# Altium schematic symbol library connector.SchLib: 89 symbols
Pins are listed as number, name and electrical type; pins without a type are passive.

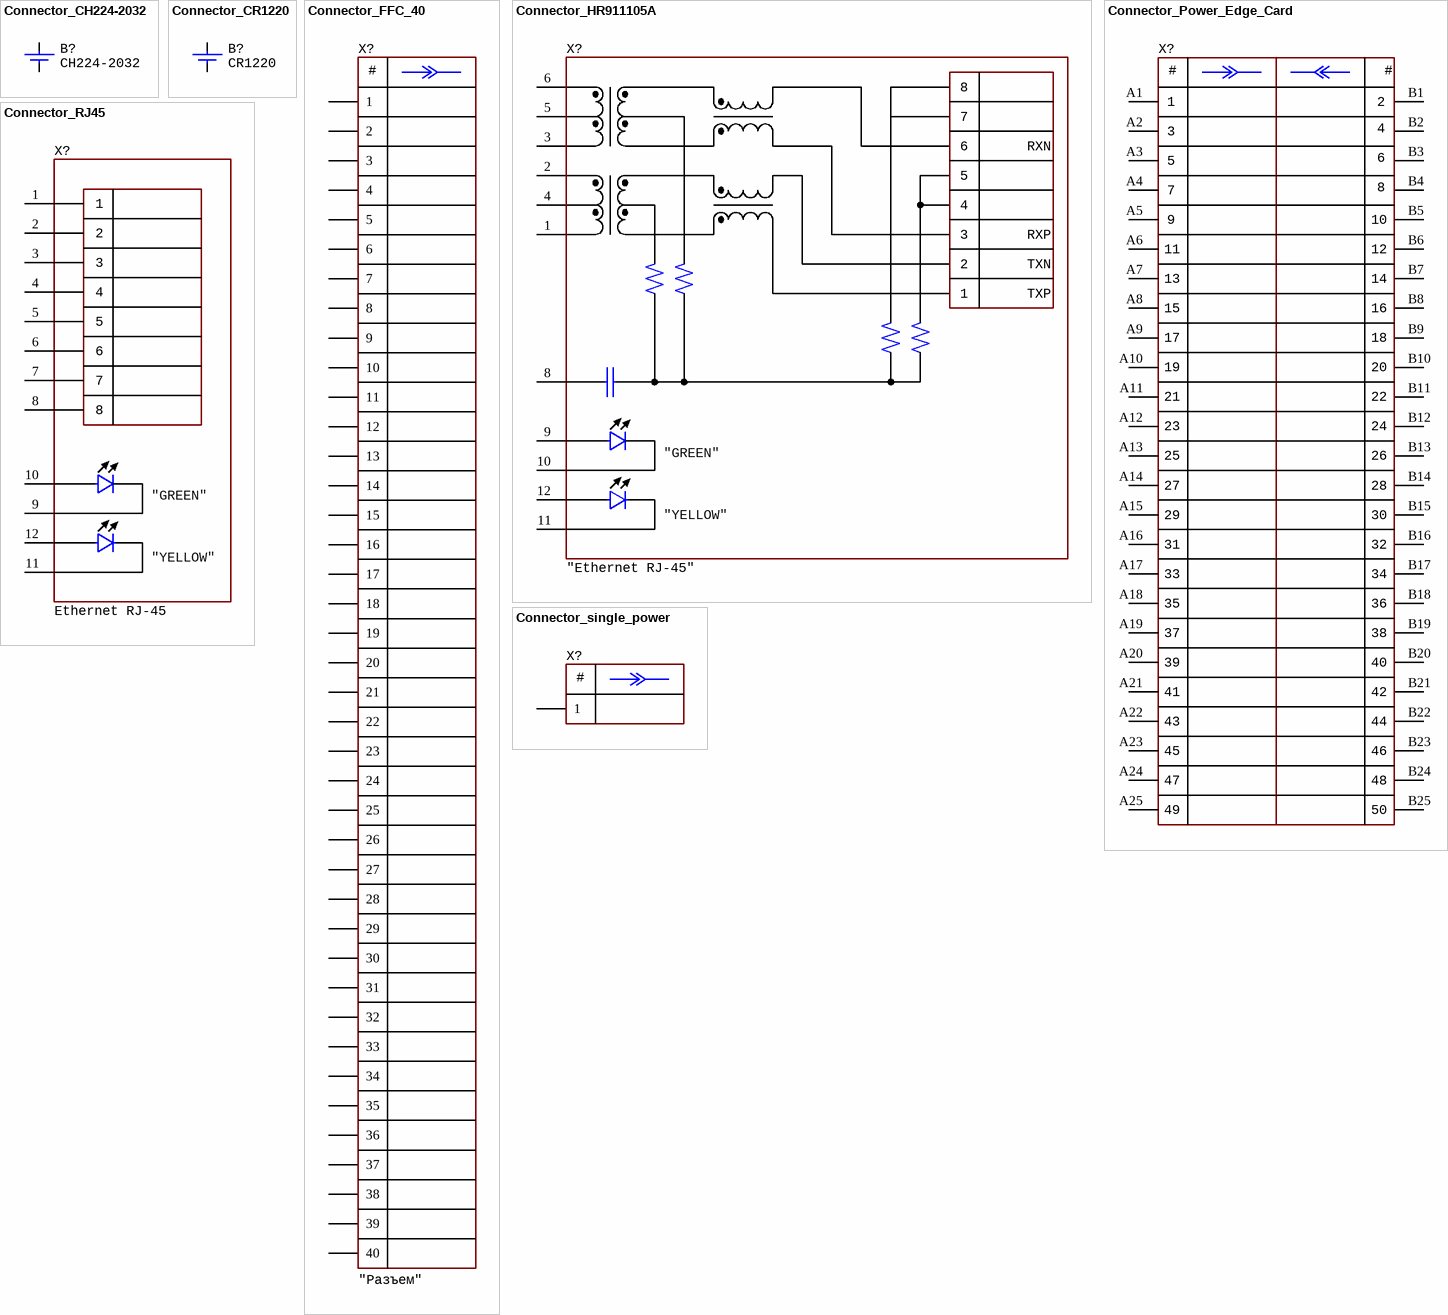
[diagram p0: symbols Connector_CH224-2032 to Connector_single_power]

## Connector_CH224-2032
designator B?  PartNumber: CH224-2032
Manufacturer: KLS; ValueManufacturerPartNumber: Single battery CR2032; CommentText: CR2032; HelpURL: https://www.chipdip.ru/product/bh-642; TypeConnector: Single battery CR2032
footprint BAT: CH224-2032 (пїЅпїЅпїЅпїЅпїЅпїЅпїЅпїЅпїЅпїЅ пїЅпїЅпїЅпїЅпїЅ пїЅпїЅпїЅ пїЅпїЅпїЅпїЅпїЅпїЅпїЅпїЅ 2032)
pins: 1 + (power), 2 - (power)

## Connector_CR1220
designator B?  CommentText: CR1220
Manufacturer: Q&J; ValueManufacturerPartNumber: Single battery CR1220; PartNumber: CR1220-2; HelpURL: https://lcsc.com/product-detail/Battery-Holders-Clips-Contacts_CR1220-2-Battery-horizontal-base_C70381.html; TypeConnector: Single battery CR1220
footprint BAT: CR1220
pins: 1 + (power), 2 - (power)

## Connector_FFC_40
designator X?  CommentText: "Разъем"
Manufacturer: JUSHUO; ValueManufacturerPartNumber: Connector, 40pin, 0.5mm, FFC/FPC, Top contact; PartNumber: AFC07-S40ECC-00; TypeConnector: Connector; VoltageMax: FFC/FPC; Pitch: 0.5mm; CurrentMax: Top contact; Multichannel: 40pin; HelpURL: https://lcsc.com/product-detail/FFC-FPC-Connectors_JUSHUO-AFC07-S40ECC-00_C11097.html
footprint CON: FFC/FPC-40-0.5
pins: 1, 2, 3, 4, 5, 6, 7, 8, 9, 10, 11, 12, 13, 14, 15, 16, 17, 18, 19, 20, 21, 22, 23, 24, 25, 26, 27, 28, 29, 30, 31, 32, 33, 34, 35, 36, 37, 38, 39, 40
text: #

## Connector_HR911105A
designator X?  CommentText: "Ethernet RJ-45"
Manufacturer: Hanrun; ValueManufacturerPartNumber: Etherner RJ-45 connector; PartNumber: HR911105A; HelpURL: https://ru.aliexpress.com/item/32244614847.html?spm=a2g0v.search0104.3.9.304d24e7qb4B5g&ws_ab_test=searchweb0_0%2Csearchweb201602_10_10065_10068_319_317_10696_453_10084_454_10083_10618_10307_10301_537_536_10059_10884_10887_321_322_10915_10103_10914_10911_10910%2Csearchweb201603_52%2CppcSwitch_0&algo_expid=ad591376-da58-472d-83c6-21bacd43ef2b-1&algo_pvid=ad591376-da58-472d-83c6-21bacd43ef2b&transAbTest=ae803_5; TypeConnector: Etherner RJ-45 connector
footprint CON: HR911105A
pins: 1 TD+, 2 TD-, 3 RD+, 4 CT, 5 CT, 6 RD-, 8 GND, 9 D2, 10 D1, 11 D3, 12 D4
text: 7; RXN; RXP; TXN; TXP; "GREEN"; "YELLOW"

## Connector_Power_Edge_Card
designator X?
Manufacturer: Amphenol; ValueManufacturerPartNumber: Connector, 50pin, 2.54mm, 1000VAC, 7A/pin; PartNumber: 10035388-102LF; TypeConnector: Connector; VoltageMax: 1000VAC; Pitch: 2.54mm; CurrentMax: 7A/pin; Multichannel: 50pin; CommentText: Card Edge; HelpURL: https://ru.mouser.com/ProductDetail/Amphenol-FCI/10035388-102LF?qs=%2Fha2pyFadui9x9oTzk6aoOrWfush%2FCTWI8EfMisuUnAIufrbBy3wfA%3D%3D
footprint CON: 10035388-102LF (Amphenol)
pins: A1, A2, A3, A4, A5, A6, A7, A8, A9, A10, A11, A12, A13, A14, A15, A16, A17, A18, A19, A20, A21, A22, A23, A24, A25, B1, B2, B3, B4, B5, B6, B7, B8, B9, B10, B11, B12, B13, B14, B15, B16, B17, B18, B19, B20, B21, B22, B23, B24, B25
text: #; 1; 2; 3; 4; 5; 6; 7; 8; 9; 10; 11; 12; 13; 14; 15; 16; 17; 18; 19; 20; 21; 22; 23; 24; 25; 26; 27; 28; 29; 30; 31; 32; 33; 34; 35; 36; 37; 38; 39; 40; 41; 42; 43; 44; 45; 46; 47; 48; 49; 50

## Connector_RJ45
designator X?  CommentText: Ethernet RJ-45
Manufacturer: Wurth; ValueManufacturerPartNumber: Etherner RJ-45 connector; PartNumber: 615008137421; AnalogComponent: DS1128-09-S8B8S (Connfly); HelpURL: https://www.digikey.com/product-detail/en/w-rth-elektronik/615008137421/732-2112-ND/2060608; TypeConnector: Etherner RJ-45 connector
footprint CON: RJ-45 (615008137421 / DS1128-09-S8B8S)
pins: 1 D2, 2 D2, 3 D2, 4 D2, 5 D2, 6 D2, 7 D2, 8 D2, 9 D2, 10 D1, 11 D3, 12 D4
text: "GREEN"; "YELLOW"

## Connector_single_power
designator X?
ValueManufacturerPartNumber: Power connector, *, *; TypeConnector: Power connector; CommentText: "Разъем"; Manufacturer: *; HelpURL: *; PartNumber: *; VoltageMax: *; CurrentMax: *
footprint CON: 7781
footprint CON: 8191
footprint CON: 7461057
footprint CON: 7461097
footprint CON: 7466005R
footprint CON: TH 1mm
footprint CON: TH 2mm
footprint CON: TH 3.5mm
footprint CON: Tyco 62650-1
pins: 1
text: #

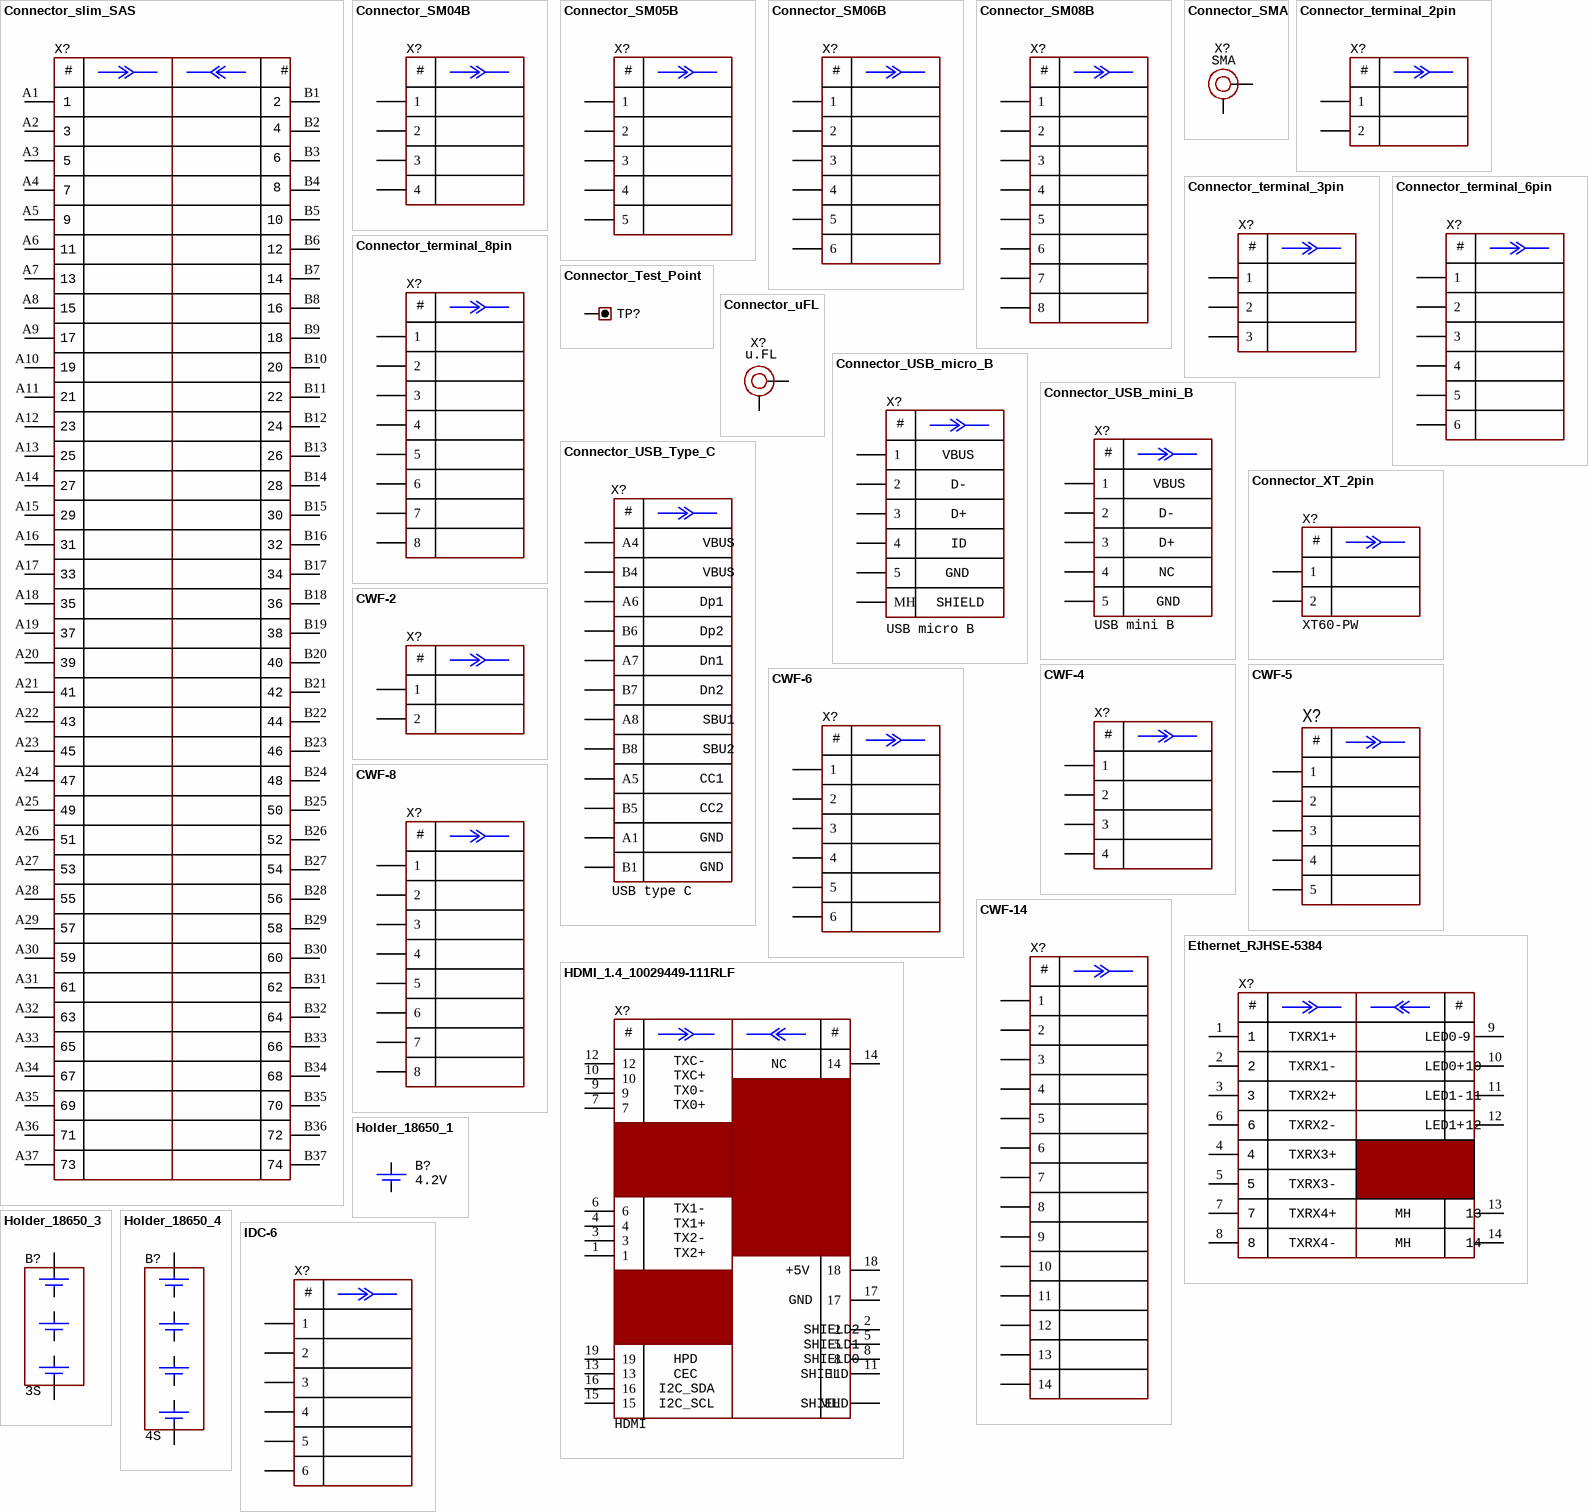
[diagram p1: symbols Connector_slim_SAS to IDC-6]

## Connector_slim_SAS
designator X?
Manufacturer: TE connectivity; ValueManufacturerPartNumber: Connector, 74pin, 0.6mm, x8 line, SFF-8654; PartNumber: 2356320-1; TypeConnector: Connector; VoltageMax: x8 line; Pitch: 0.6mm; Multichannel: 74pin; CommentText: SlimSAS; HelpURL: https://www.te.com/usa-en/product-2356320-1.html?q=2356320&source=header; CurrentMax: SFF-8654
footprint CON: 2356320-1 (slimSAS) (TE manufacture)
footprint CON: 2356318-1 (SlimSAS)
pins: A1, A2, A3, A4, A5, A6, A7, A8, A9, A10, A11, A12, A13, A14, A15, A16, A17, A18, A19, A20, A21, A22, A23, A24, A25, A26, A27, A28, A29, A30, A31, A32, A33, A34, A35, A36, A37, B1, B2, B3, B4, B5, B6, B7, B8, B9, B10, B11, B12, B13, B14, B15, B16, B17, B18, B19, B20, B21, B22, B23, B24, B25, B26, B27, B28, B29, B30, B31, B32, B33, B34, B35, B36, B37
text: #; 1; 2; 3; 4; 5; 6; 7; 8; 9; 10; 11; 12; 13; 14; 15; 16; 17; 18; 19; 20; 21; 22; 23; 24; 25; 26; 27; 28; 29; 30; 31; 32; 33; 34; 35; 36; 37; 38; 39; 40; 41; 42; 43; 44; 45; 46; 47; 48; 49; 50; 51; 52; 53; 54; 55; 56; 57; 58; 59; 60; 61; 62; 63; 64; 65; 66; 67; 68; 69; 70; 71; 72; 73; 74

## Connector_SM04B
designator X?
Manufacturer: JST; ValueManufacturerPartNumber: Connector, 4pin, 1.25mm, 50VDC, 1A; PartNumber: SM04B-GHS; TypeConnector: Connector; VoltageMax: 50VDC; Pitch: 1.25mm; CurrentMax: 1A; Multichannel: 4pin; CommentText: "Разъем"; HelpURL: https://www.digikey.com/product-detail/en/jst-sales-america-inc/SM04B-GHS-TB-LF-SN/455-1566-1-ND/807834
footprint CON: SM04B-GHS
pins: 1, 2, 3, 4
text: #

## Connector_SM05B
designator X?
Manufacturer: JST; ValueManufacturerPartNumber: Connector, 5pin, 1.25mm, 50VDC, 1A; PartNumber: SM05B-GHS; TypeConnector: Connector; VoltageMax: 50VDC; Pitch: 1.25mm; CurrentMax: 1A; Multichannel: 5pin; CommentText: "Разъем"; HelpURL: https://www.digikey.com/product-detail/en/jst-sales-america-inc/SM05B-GHS-TB-LF-SN/455-1567-1-ND/807835
footprint CON: SM05B-GHS
pins: 1, 2, 3, 4, 5
text: #

## Connector_SM06B
designator X?
Manufacturer: JST; ValueManufacturerPartNumber: Connector, 6pin, 1.25mm, 50VDC, 1A; PartNumber: SM06B-GHS; TypeConnector: Connector; VoltageMax: 50VDC; Pitch: 1.25mm; CurrentMax: 1A; Multichannel: 6pin; CommentText: "Разъем"; HelpURL: https://www.digikey.com/product-detail/en/jst-sales-america-inc/SM06B-GHS-TB-LF-SN/455-1568-1-ND/807836
footprint CON: SM06B-GHS
pins: 1, 2, 3, 4, 5, 6
text: #

## Connector_SM08B
designator X?
Manufacturer: JST; ValueManufacturerPartNumber: Connector, 6pin, 1.25mm, 50VDC, 1A; PartNumber: SM08B-GHS; TypeConnector: Connector; VoltageMax: 50VDC; Pitch: 1.25mm; CurrentMax: 1A; Multichannel: 6pin; CommentText: "Разъем"; HelpURL: https://www.digikey.com/en/products/detail/jst-sales-america-inc/SM08B-GHS-TB-LF-SN/807792
footprint CON: SM08B-GHS
pins: 1, 2, 3, 4, 5, 6, 7, 8
text: #

## Connector_SMA
designator X?  CommentText: SMA
Manufacturer: TE Connectivity; ValueManufacturerPartNumber: Connector SMA, 50 Ohm, 3GHz; PartNumber: 5-1814832-1; TypeConnector: Connector SMA; Frequency: 3GHz; Impedance: 50 Ohm; HelpURL: https://www.digikey.com/product-detail/en/te-connectivity-amp-connectors/5-1814832-1/A97594-ND/1755982
footprint CON: SMA
pins: 1, 2

## Connector_terminal_2pin
designator X?
Manufacturer: Degson; ValueManufacturerPartNumber: Terminal connector, 2pin, 3.5mm, 300VAC, 10A; PartNumber: DG350-3.5-02P-14; TypeConnector: Terminal connector; VoltageMax: 300VAC; Pitch: 3.5mm; CurrentMax: 10A; Multichannel: 2pin; CommentText: "Разъем"; HelpURL: https://www.chipdip.ru/product/dg350-3.5-02p-12
footprint CON: DG350-3.5-02P
footprint CON: DG950-9.5-02P
footprint CON: KLS2 (or 691311500002)
footprint CON: 15EDGRC-3.5-02 (or 691322110002) (Horizontal PCB Header, pitch 3.5mm, 02p)
footprint CON: 15EDGVC-3.5-02 (or 691321100002) (Vertical PCB Header, pitch 3.5mm, 02p)
footprint CON: 691313710002
footprint CON: 691322310002
pins: 1, 2
text: #

## Connector_terminal_3pin
designator X?
Manufacturer: Degson; ValueManufacturerPartNumber: Terminal connector, 3pin, 3.5mm, 300VAC, 10A; PartNumber: DG350-3.5-03P-14; TypeConnector: Terminal connector; VoltageMax: 300VAC; Pitch: 3.5mm; CurrentMax: 10A; Multichannel: 3pin; CommentText: "Разъем"; HelpURL: https://www.chipdip.ru/product/dg350-3.5-03p-12
footprint CON: DG350-3.5-03P
footprint CON: 15EDGRC-3.5-03 (or 691322110003) (Horizontal PCB Header, pitch 3.5mm, 03p)
footprint CON: 15EDGVC-3.5-03 (or 691321100003) (Vertical PCB Header, pitch 3.5mm, 03p)
pins: 1, 2, 3
text: #

## Connector_terminal_6pin
designator X?
Manufacturer: Degson; ValueManufacturerPartNumber: Terminal connector, 6pin, 3.5mm, 300VAC, 10A; PartNumber: DG350-3.5-06P-14; TypeConnector: Terminal connector; VoltageMax: 300VAC; Pitch: 3.5mm; CurrentMax: 10A; Multichannel: 6pin; CommentText: "Разъем"; HelpURL: https://www.compel.ru/infosheet/DEGSON/DG350-3.5-06P-14-00AH
footprint CON: DG350-3.5-06P
footprint CON: 15EDGRC-3.5-06 (or 691322110006) (Horizontal PCB Header, pitch 3.5mm, 06p)
footprint CON: 15EDGVC-3.5-06 (or 691321100006) (Vertical PCB Header, pitch 3.5mm, 06p)
pins: 1, 2, 3, 4, 5, 6
text: #

## Connector_terminal_8pin
designator X?
Manufacturer: Degson; ValueManufacturerPartNumber: Terminal connector, 6pin, 3.5mm, 300VAC, 10A; PartNumber: DG350-3.5-08P-14; TypeConnector: Terminal connector; VoltageMax: 300VAC; Pitch: 3.5mm; CurrentMax: 10A; Multichannel: 6pin; CommentText: "Разъем"; HelpURL: https://www.compel.ru/infosheet/DEGSON/DG350-3.5-08P-14-00AH
footprint CON: 15EDGRC-3.5-08 (or 691322110008) (Horizontal PCB Header, pitch 3.5mm, 08p)
footprint CON: 15EDGVC-3.5-08 (or 691321100008) (Vertical PCB Header, pitch 3.5mm, 08p)
pins: 1, 2, 3, 4, 5, 6, 7, 8
text: #

## Connector_Test_Point
designator TP?
Manufacturer: Keystone; ValueManufacturerPartNumber: Test point, Keystone, 5001; PartNumber: 5001; TypeConnector: Test point; HelpURL: https://www.digikey.com/product-detail/en/keystone-electronics/5001/36-5001-ND/255327
footprint CON: 5000 (Keystone)
footprint CON: 5001 (Keystone)
footprint CON: 5002 (Keystone)
footprint CON: 5004 (Keystone)
footprint CON: 5116 (Keystone)
pins: 1

## Connector_uFL
designator X?  CommentText: u.FL
Manufacturer: Hirose Electric; ValueManufacturerPartNumber: Connector u.FL, 50 Ohm, 6GHz; PartNumber: U.FL-R-SMT(01); TypeConnector: Connector u.FL; Frequency: 6GHz; Impedance: 50 Ohm; HelpURL: https://www.digikey.com/product-detail/en/hirose-electric-co-ltd/U.FL-R-SMT-01/H9161-ND/513010
footprint CON: u.Fl
pins: 1, 2

## Connector_USB_micro_B
designator X?  CommentText: USB micro B
Manufacturer: Hirose Electric; PartNumber: ZX62-B-5PA; HelpURL: https://www.digikey.com/product-detail/en/hirose-electric-co-ltd/ZX62-B-5PA/H11579CT-ND/1851090; ValueManufacturerPartNumber: USB micro B; TypeConnector: USB micro B
footprint CON: USB micro-A (ZX62-B-5PA)
pins: 0 MH, 1, 2, 3, 4, 5
text: #; VBUS; D-; D+; ID; GND; SHIELD

## Connector_USB_mini_B
designator X?  CommentText: USB mini B
Manufacturer: Molex; PartNumber: 0675031020; HelpURL: https://www.digikey.com/product-detail/en/molex/0675031020/WM5461CT-ND/1624427; ValueManufacturerPartNumber: USB mini B; TypeConnector: USB mini B
footprint CON: 0675031020
pins: 1, 2, 3, 4, 5
text: #; VBUS; D-; D+; NC; GND

## Connector_USB_Type_C
designator X?  CommentText: USB type C
Manufacturer: Korean Hroparts; ValueManufacturerPartNumber: USB Type C, 3A; PartNumber: TYPE-C-31-M-12; CurrentMax: 3A; HelpURL: https://lcsc.com/product-detail/USB-Type-C_Korean-Hroparts-Elec-TYPE-C-31-M-12_C165948.html; TypeConnector: USB Type C
footprint CON: TYPE-C-31-M-12
pins: A1, A4, A5, A6, A7, A8, B1, B4, B5, B6, B7, B8
text: #; VBUS; Dp1; Dp2; Dn1; Dn2; SBU1; SBU2; CC1; CC2; GND

## Connector_XT_2pin
designator X?  CommentText: XT60-PW
Manufacturer: AMASS; ValueManufacturerPartNumber: Power connector, 2pin, 7.2mm, 500V, 60A; PartNumber: XT60PW-M; TypeConnector: Power connector; VoltageMax: 500V; Pitch: 7.2mm; CurrentMax: 60A; Multichannel: 2pin; HelpURL: https://lcsc.com/product-detail/Connectors_Changzhou-Amass-Elec-XT60PW-M_C98732.html
footprint CON: XT60PW-M
pins: 1, 2
text: #

## CWF-2
designator X?
Manufacturer: Connfly; ValueManufacturerPartNumber: Connector, 2pin, 2.54mm, 250VAC, 3A; PartNumber: CWF-2R; TypeConnector: Connector; VoltageMax: 250VAC; Pitch: 2.54mm; CurrentMax: 3A; Multichannel: 2pin; CommentText: "Разъем"; HelpURL: https://www.chipdip.ru/product/cwf-2r-ds1069-2-mr
footprint CON: CWF-2
footprint CON: CWF-2R
pins: 1, 2
text: #

## CWF-4
designator X?
Manufacturer: Connfly; ValueManufacturerPartNumber: Connector, 4pin, 2.54mm, 250VAC, 3A; PartNumber: CWF-4R; TypeConnector: Connector; VoltageMax: 250VAC; Pitch: 2.54mm; CurrentMax: 3A; Multichannel: 4pin; CommentText: "Разъем"; HelpURL: https://www.chipdip.ru/product/cwf-4r-ds1069-4-mr
footprint CON: CWF-4
footprint CON: CWF-4R
footprint CON: 0530480410 (Molex) (pitch 1.25 mm, 4 pins, Molex)
footprint CON: 0559350410 (Molex) (pitch 2.0 mm, 4 pins, Molex)
pins: 1, 2, 3 (power), 4 (power)
text: #

## CWF-5
designator X?
Manufacturer: Connfly; ValueManufacturerPartNumber: Connector, 5pin, 2.54mm, 250VAC, 3A; PartNumber: CWF-5R; TypeConnector: Connector; VoltageMax: 250VAC; Pitch: 2.54mm; CurrentMax: 3A; Multichannel: 5pin; CommentText: "Разъем"; HelpURL: https://www.chipdip.ru/product1/8001781597
footprint CON: CWF-5
footprint CON: CWF-5R
pins: 1, 2, 3 (power), 4 (power), 5 (power)
text: #

## CWF-6
designator X?
Manufacturer: Connfly; ValueManufacturerPartNumber: Connector, 6pin, 2.54mm, 250VAC, 3A; PartNumber: CWF-6R; TypeConnector: Connector; VoltageMax: 250VAC; Pitch: 2.54mm; CurrentMax: 3A; Multichannel: 6pin; CommentText: "Разъем"; HelpURL: https://www.chipdip.ru/product/cwf-6r-ds1069-6-mr
footprint CON: CWF-6
footprint CON: CWF-6R
pins: 1, 2, 3 (power), 4 (power), 5 (power), 6 (power)
text: #

## CWF-8
designator X?
Manufacturer: Connfly; ValueManufacturerPartNumber: Connector, 8pin, 2.5mm, 250VAC, 3A; PartNumber: CWF-8; TypeConnector: Connector; VoltageMax: 250VAC; Pitch: 2.5mm; CurrentMax: 3A; Multichannel: 8pin; CommentText: "Разъем"; HelpURL: https://www.chipdip.ru/product/cwf-8
footprint CON: CWF-8
footprint CON: CWF-8R
pins: 1, 2, 3 (power), 4 (power), 5 (power), 6 (power), 7 (power), 8 (power)
text: #

## CWF-14
designator X?
Manufacturer: Connfly; ValueManufacturerPartNumber: Connector, 14pin, 2.5mm, 250VAC, 3A; PartNumber: CWF-14; TypeConnector: Connector; VoltageMax: 250VAC; Pitch: 2.5mm; CurrentMax: 3A; Multichannel: 14pin; CommentText: "Разъем"; HelpURL: https://www.chipdip.ru/product/cwf-14
footprint CON: CWF-14
pins: 1, 2, 3 (power), 4 (power), 5 (power), 6 (power), 7 (power), 8 (power), 9 (power), 10 (power), 11 (power), 12 (power), 13 (power), 14 (power)
text: #

## Ethernet_RJHSE-5384
designator X?
Manufacturer: Amphenol; ValueManufacturerPartNumber: RJ45, Yellow+Green, 8p8c; TypeConnector: RJ45; VoltageMax: 8p8c; Pitch: Yellow+Green; CommentText: Ethernet RJ-45; HelpURL: https://www.digikey.com/en/products/detail/amphenol-icc-commercial-products/RJHSE-5384/1242697; PartNumber: RJHSE-5384
footprint CON: RJHSE-5384 (Ethernet 1G to RJ45, Amphenol)
pins: 1, 2, 3, 4, 5, 6, 7, 8, 9, 10, 11, 12, 13, 14
text: #; TXRX1+; LED0-; TXRX1-; LED0+; TXRX2+; LED1-; TXRX2-; LED1+; TXRX3+; TXRX3-; TXRX4+; MH; TXRX4-

## HDMI_1.4_10029449-111RLF
designator X?  CommentText: HDMI
Manufacturer: Amphenol; ValueManufacturerPartNumber: HDMI 1.4; PartNumber: 10029449-111RLF; HelpURL: https://www.digikey.com/en/products/detail/amphenol-icc-fci/10029449-111RLF/2785386; TypeConnector: HDMI 1.4
footprint CON: HDMI_10029449-111RLF (HDMI 1.4, Amphenol)
pins: 1, 2, 3, 4, 5, 6, 7, 8, 9, 10, 11, 12, 13, 14, 15, 16, 17, 18, 19, MH (power)
text: #; TXC-; NC; TXC+; TX0-; TX0+; TX1-; TX1+; TX2-; TX2+; +5V; GND; SHIELD2; SHIELD1; HPD; SHIELD0; CEC; SHIELD; I2C_SDA; I2C_SCL

## Holder_18650_1
designator B?  VoltageMax: 4.2V
Manufacturer: ALLOYSEED; ValueManufacturerPartNumber: Single holder 18650, 4.2V; PartNumber: Holder 18650; TypeConnector: Single holder 18650; HelpURL: https://ru.aliexpress.com/item/32814062027.html?spm=2114.13010708.0.0.498333edwmS6ak
footprint CON: HOLDER 18650 x1
pins: 1 + (power), 2 - (power)

## Holder_18650_3
designator B?  VoltageMax: 3S
Manufacturer: MPD; ValueManufacturerPartNumber: 3S holder 18650 type, 3S; PartNumber: BK-18650-PC6; TypeConnector: 3S holder 18650 type; HelpURL: https://www.digikey.com/en/products/detail/mpd-memory-protection-devices/BK-18650-PC6/2330514
footprint CON: HOLDER 18650 x3 (BK-18650-PC6, MPD)
pins: 1 + (power), 2 - (power), 3 + (power), 4 - (power), 5 + (power), 6 - (power)

## Holder_18650_4
designator B?  VoltageMax: 4S
Manufacturer: MPD; ValueManufacturerPartNumber: 4S holder 18650 type, 4S; PartNumber: BK-18650-PC8; TypeConnector: 4S holder 18650 type; HelpURL: https://www.digikey.com/en/products/detail/mpd-memory-protection-devices/BK-18650-PC8/2330515?s=N4IgjCBcoMwExVAYygMwIYBsDOBTANCAPZQDa4YArJQAyUgC6hADgC5QgDKrATgJYA7AOYgAvoRgA2RCBSQMOAsTIg4NGGEkB2Ri3aQuvQSPEhJAThlyFeQiUjkYADloWQElzS01dINh25%2BYTFCMHMnS2hZNCxbZQcQHyY-fUMgk0IAWgQouV4AVyV7cnoGU0zpXKgCopUEMtNK0D4AEw5MsBoIPQ53EABHVgBPDm6QYeZcDnRsFFFRIA
footprint CON: HOLDER 18650 x4 (BK-18650-PC8, MPD)
pins: 1 + (power), 2 - (power), 3 + (power), 4 - (power), 5 + (power), 6 - (power), 7 + (power), 8 - (power)

## IDC-6
designator X?
Manufacturer: Connfly; ValueManufacturerPartNumber: Connector, 6pin, 2.54mm, 250VAC, 3A; PartNumber: IDC-6; TypeConnector: Connector; VoltageMax: 250VAC; Pitch: 2.54mm; CurrentMax: 3A; Multichannel: 6pin; CommentText: "Разъем"; HelpURL: https://ru.aliexpress.com/item/1719644716.html?spm=a2g0v.search0104.3.23.4d9c1bc6xlIt6Q&ws_ab_test=searchweb0_0%2Csearchweb201602_10_10065_10068_319_317_10696_453_10084_454_10083_10618_10307_10301_537_536_10059_10884_10887_321_322_10915_10103_10914_10911_10910%2Csearchweb201603_52%2CppcSwitch_0&algo_expid=18a75006-9775-490c-9b34-8e5eba9edd8d-3&algo_pvid=18a75006-9775-490c-9b34-8e5eba9edd8d&transAbTest=ae803_5
footprint CON: IDC-6MS (IDC-6MS 6 pin PCB-mount connector)
pins: 1, 2, 3 (power), 4 (power), 5 (power), 6 (power)
text: #

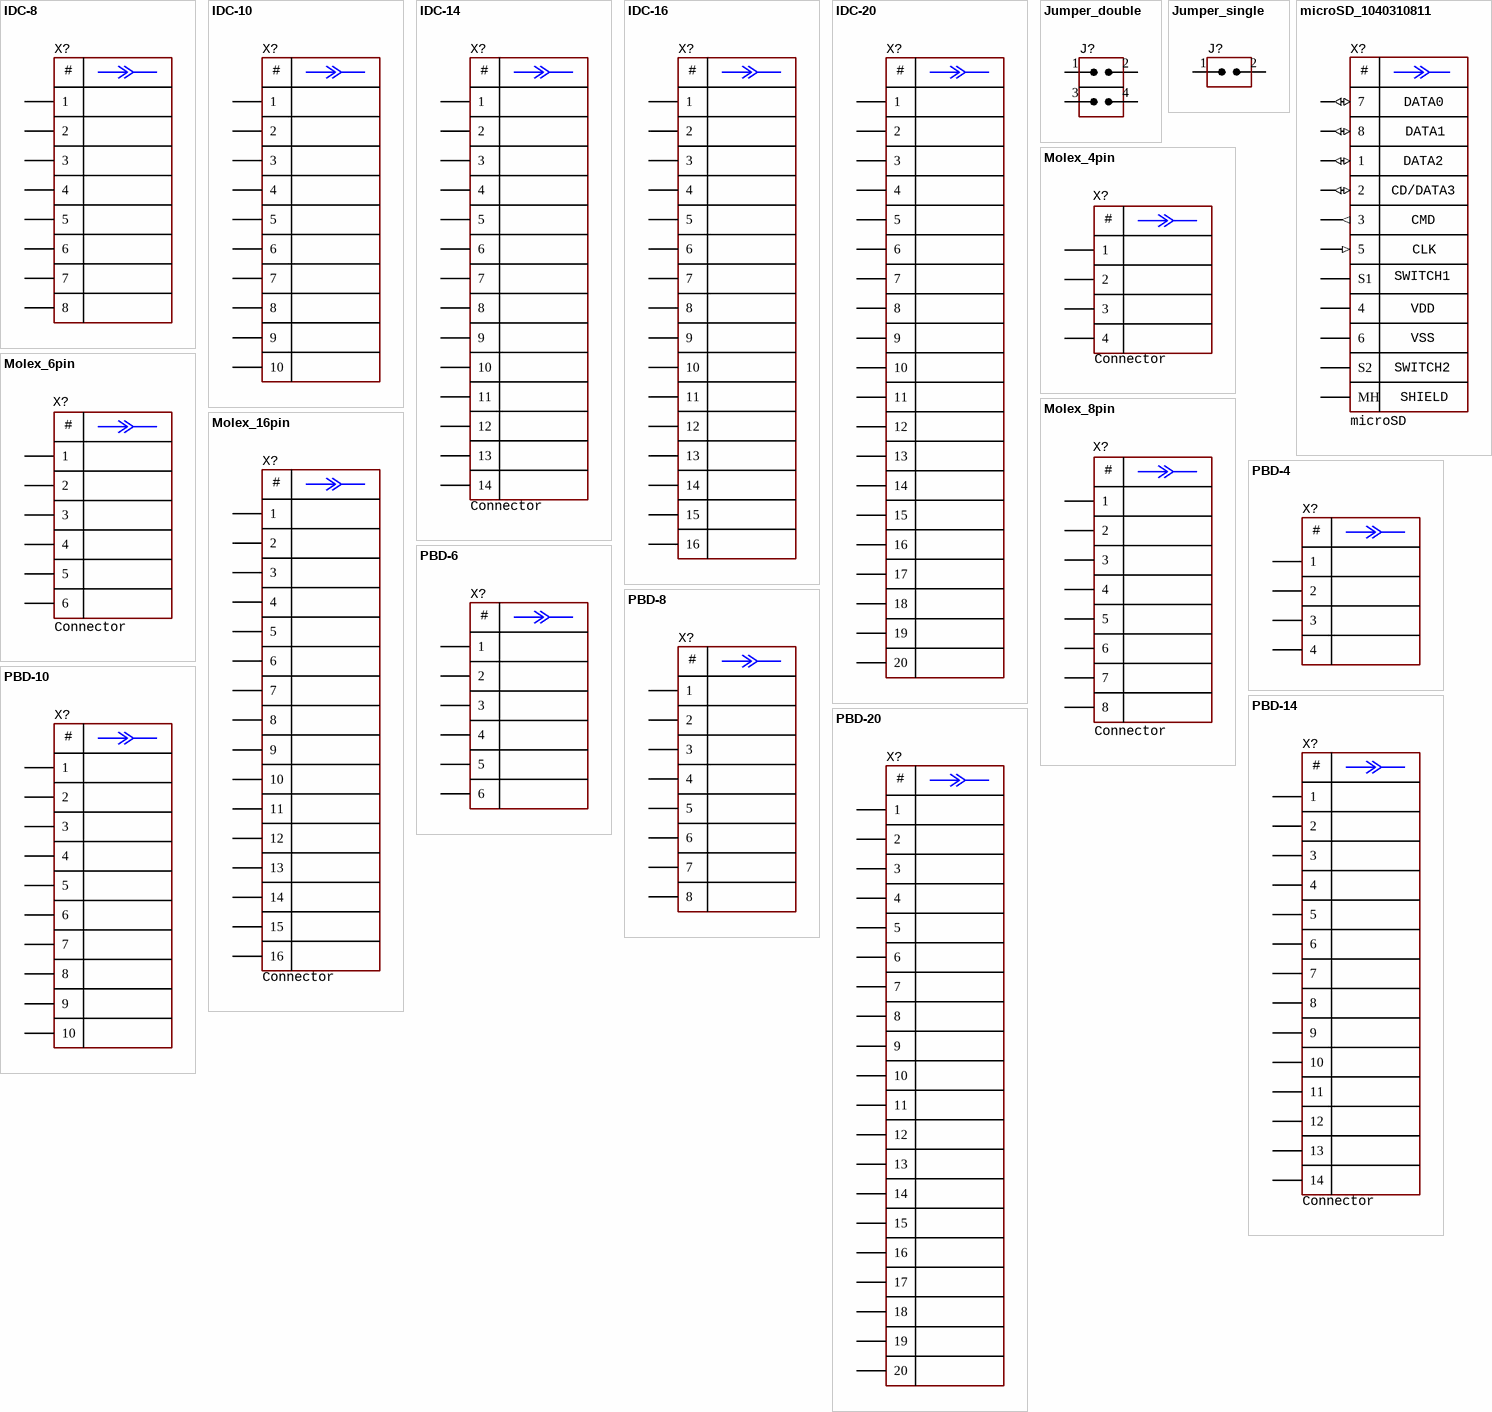
[diagram p2: symbols IDC-8 to PBD-20]

## IDC-8
designator X?
Manufacturer: Connfly; ValueManufacturerPartNumber: Connector, 8pin, 2.54mm, 250VAC, 3A; PartNumber: IDC-8; TypeConnector: Connector; VoltageMax: 250VAC; Pitch: 2.54mm; CurrentMax: 3A; Multichannel: 8pin; CommentText: "Разъем"; HelpURL: https://ru.aliexpress.com/item/32844529829.html?spm=a2g0v.search0104.3.71.2aab7ea5RAoRWf&ws_ab_test=searchweb0_0%2Csearchweb201602_10_10065_10068_319_317_10696_453_10084_454_10083_10618_10307_10301_537_536_10059_10884_10887_321_322_10915_10103_10914_10911_10910%2Csearchweb201603_52%2CppcSwitch_0&algo_expid=63c39673-c933-4d26-b04d-b3f9765a9d8b-10&algo_pvid=63c39673-c933-4d26-b04d-b3f9765a9d8b&transAbTest=ae803_5
footprint CON: IDC-8MS
pins: 1, 2, 3 (power), 4 (power), 5 (power), 6 (power), 7 (power), 8 (power)
text: #

## IDC-10
designator X?
Manufacturer: Connfly; ValueManufacturerPartNumber: Connector, 10pin, 2.54mm, 250VAC, 3A; PartNumber: IDC-10; TypeConnector: Connector; VoltageMax: 250VAC; Pitch: 2.54mm; CurrentMax: 3A; Multichannel: 10pin; CommentText: "Разъем"; HelpURL: https://www.chipdip.ru/product/idc-10ms
footprint CON: IDC-10MS (IDC-10MS 10 pin PCB-mount header)
pins: 1, 2, 3 (power), 4 (power), 5 (power), 6 (power), 7 (power), 8 (power), 9 (power), 10 (power)
text: #

## IDC-14
designator X?  CommentText: Connector
Manufacturer: Connfly; ValueManufacturerPartNumber: Connector, 14pin, 2.54mm, 250VAC, 3A; PartNumber: IDC-14; VoltageMax: 250VAC; Pitch: 2.54mm; CurrentMax: 3A; Multichannel: 14pin; HelpURL: https://www.chipdip.ru/product/idc-14ms; TypeConnector: Connector
footprint CON: IDC-14MS (IDC-14MS connector)
pins: 1, 2, 3 (power), 4 (power), 5 (power), 6 (power), 7 (power), 8 (power), 9 (power), 10 (power), 11 (power), 12 (power), 13 (power), 14 (power)
text: #

## IDC-16
designator X?
Manufacturer: Connfly; ValueManufacturerPartNumber: Connector, 16pin, 2.54mm, 250VAC, 3A; PartNumber: IDC-16; TypeConnector: Connector; VoltageMax: 250VAC; Pitch: 2.54mm; CurrentMax: 3A; Multichannel: 16pin; CommentText: "Разъем"; HelpURL: https://www.chipdip.ru/product/idc-16ms
footprint CON: IDC-16MS (IDC-16MS straight leads pcb mount)
pins: 1, 2, 3 (power), 4 (power), 5 (power), 6 (power), 7 (power), 8 (power), 9 (power), 10 (power), 11 (power), 12 (power), 13 (power), 14 (power), 15 (power), 16 (power)
text: #

## IDC-20
designator X?
Manufacturer: Connfly; ValueManufacturerPartNumber: Connector, 20pin, 2.54mm, 250VAC, 3A; PartNumber: IDC-20; TypeConnector: Connector; VoltageMax: 250VAC; Pitch: 2.54mm; CurrentMax: 3A; Multichannel: 20pin; CommentText: "Разъем"; HelpURL: https://www.chipdip.ru/product/idc-20ms
footprint CON: IDC-20MS
pins: 1, 2, 3 (power), 4 (power), 5 (power), 6 (power), 7 (power), 8 (power), 9 (power), 10 (power), 11 (power), 12 (power), 13 (power), 14 (power), 15 (power), 16 (power), 17 (power), 18 (power), 19 (power), 20 (power)
text: #

## Jumper_double
designator J?
CommentText: "Перемычка"
footprint CON: JUMPER x2
footprint CON: PLD-4
pins: 1 IN, 2 IN, 3 IN, 4 IN

## Jumper_single
designator J?
CommentText: "Перемычка"
footprint CON: JUMPER x1
footprint CON: PLS-2
pins: 1 IN, 2 IN

## microSD_1040310811
designator X?  CommentText: microSD
Manufacturer: Molex; PartNumber: 1040310811; HelpURL: https://www.digikey.com/en/products/detail/molex/1040310811/2370379; ValueManufacturerPartNumber: MicroSD; TypeConnector: MicroSD
footprint CON: 1040310811 (Molex)
pins: 1 (io), 2 (io), 3 (out), 4 (power), 5 (in), 6 (power), 7 (io), 8 (io), MH (power), S1 (power), S2 (power)
text: #; DATA0; DATA1; DATA2; CD/DATA3; CMD; CLK; SWITCH1; VDD; VSS; SWITCH2; SHIELD

## Molex_4pin
designator X?  CommentText: Connector
Manufacturer: Molex; ValueManufacturerPartNumber: Connector, 4pin, 3.0mm, 600V, 8A; PartNumber: 0430450401; VoltageMax: 600V; Pitch: 3.0mm; CurrentMax: 8A; Multichannel: 4pin; HelpURL: https://www.digikey.com/en/products/detail/molex/0430450401/2405197?s=N4IgTCBcDaIAwBYDMiCsi4EYQF0C%2BQA; TypeConnector: Connector
footprint CON: 0430450401 (Molex) (Pitch 3.0 mm)
footprint CON: 0430450427 (Molex)
pins: 1, 2, 3, 4
text: #

## Molex_6pin
designator X?  CommentText: Connector
Manufacturer: Molex; ValueManufacturerPartNumber: Connector, 6pin, 3.0mm, 600V, 8A; PartNumber: 0430450601; VoltageMax: 600V; Pitch: 3.0mm; CurrentMax: 8A; Multichannel: 6pin; HelpURL: https://www.digikey.com/en/products/detail/molex/0430450601/2421555; TypeConnector: Connector
footprint CON: 0430450601 (Molex) (Power, 2x3 pin, pitch 3.0 mm, Molex)
pins: 1, 2, 3, 4, 5, 6
text: #

## Molex_8pin
designator X?  CommentText: Connector
Manufacturer: Molex; ValueManufacturerPartNumber: Connector, 8pin, 3.0mm, 600V, 8A; PartNumber: 0430450827; VoltageMax: 600V; Pitch: 3.0mm; CurrentMax: 8A; Multichannel: 8pin; HelpURL: https://www.digikey.com/en/products/detail/molex/0430450827/3310208?s=N4IgTCBcDaIAwBYDMiCscAcYDsIC6AvkA; TypeConnector: Connector
footprint CON: 0430450827 (Molex) (Power, 2x4 pin, pitch 3.0mm, Molex)
footprint CON: 0430450800 (Molex) (Power, 2x4 pin, pitch 3.0mm, Molex)
pins: 1, 2, 3, 4, 5, 6, 7, 8
text: #

## Molex_16pin
designator X?  CommentText: Connector
Manufacturer: Molex; ValueManufacturerPartNumber: Connector, 16pin, 3mm, 600V, 8.5A/pin; PartNumber: 43045-1600; VoltageMax: 600V; Pitch: 3mm; CurrentMax: 8.5A/pin; Multichannel: 16pin; HelpURL: https://ru.mouser.com/ProductDetail/Molex/43045-1600?qs=SeTnVz%252B%252BFGBdrqGVXFHXvQ%3D%3D; TypeConnector: Connector
footprint CON: 43045-1600 (Molex)
pins: 1, 2, 3 (power), 4 (power), 5 (power), 6 (power), 7 (power), 8 (power), 9 (power), 10 (power), 11 (power), 12 (power), 13 (power), 14 (power), 15 (power), 16 (power)
text: #

## PBD-4
designator X?
Manufacturer: Connfly; ValueManufacturerPartNumber: Connector, 4pin, 2.54mm, 500VAC, 3A; PartNumber: PBD-4; TypeConnector: Connector; VoltageMax: 500VAC; Pitch: 2.54mm; CurrentMax: 3A; Multichannel: 4pin; CommentText: "Разъем"; HelpURL: https://www.chipdip.ru/product/pbd-4
footprint CON: PBD-4 (2.00) (PBD-4)
footprint CON: PBD-4 (2.54) (PBD-4)
pins: 1, 2, 3 (power), 4 (power)
text: #

## PBD-6
designator X?
Manufacturer: Connfly; ValueManufacturerPartNumber: Connector, 6pin, 2.54mm, 500VAC, 3A; PartNumber: PBD-6; TypeConnector: Connector; VoltageMax: 500VAC; Pitch: 2.54mm; CurrentMax: 3A; Multichannel: 6pin; CommentText: "Разъем"; HelpURL: https://www.chipdip.ru/product/pbd-6
footprint CON: PBD-6 (PBD-6)
footprint CON: PBD-6R
pins: 1, 2, 3 (power), 4 (power), 5 (power), 6 (power)
text: #

## PBD-8
designator X?
Manufacturer: Connfly; ValueManufacturerPartNumber: Connector, 8pin, 2.54mm, 500VAC, 3A; PartNumber: PBD-8; TypeConnector: Connector; VoltageMax: 500VAC; Pitch: 2.54mm; CurrentMax: 3A; Multichannel: 8pin; CommentText: "Разъем"; HelpURL: https://www.chipdip.ru/product/pbd-8
footprint CON: PBD-8 (PBD-8)
pins: 1, 2, 3 (power), 4 (power), 5 (power), 6 (power), 7 (power), 8 (power)
text: #

## PBD-10
designator X?
Manufacturer: Connfly; ValueManufacturerPartNumber: Connector, 10pin, 2.54mm, 500VAC, 3A; PartNumber: PBD-10; TypeConnector: Connector; VoltageMax: 500VAC; Pitch: 2.54mm; CurrentMax: 3A; Multichannel: 10pin; CommentText: "Разъем"; HelpURL: https://www.chipdip.ru/product/pbd-10
footprint CON: PBD-10
pins: 1, 2, 3 (power), 4 (power), 5 (power), 6 (power), 7 (power), 8 (power), 9 (power), 10 (power)
text: #

## PBD-14
designator X?  CommentText: Connector
Manufacturer: Connfly; ValueManufacturerPartNumber: Connector, 14pin, 2.54mm, 500VAC, 3A; PartNumber: PBD-14; VoltageMax: 500VAC; Pitch: 2.54mm; CurrentMax: 3A; Multichannel: 14pin; HelpURL: https://www.chipdip.ru/product/pbd-14; TypeConnector: Connector
footprint CON: PBD-14 (PBD-16)
pins: 1, 2, 3 (power), 4 (power), 5 (power), 6 (power), 7 (power), 8 (power), 9 (power), 10 (power), 11 (power), 12 (power), 13 (power), 14 (power)
text: #

## PBD-20
designator X?
Manufacturer: Connfly; ValueManufacturerPartNumber: Connector, 20pin, 2.54mm, 500VAC, 3A; PartNumber: PBD-20; TypeConnector: Connector; VoltageMax: 500VAC; Pitch: 2.54mm; CurrentMax: 3A; Multichannel: 20pin; CommentText: "Разъем"; HelpURL: https://www.chipdip.ru/product/pbd-20
footprint CON: PBD-20
footprint CON: PBD-20R (PBD-20R)
pins: 1, 2, 3 (power), 4 (power), 5 (power), 6 (power), 7 (power), 8 (power), 9 (power), 10 (power), 11 (power), 12 (power), 13 (power), 14 (power), 15 (power), 16 (power), 17 (power), 18 (power), 19 (power), 20 (power)
text: #

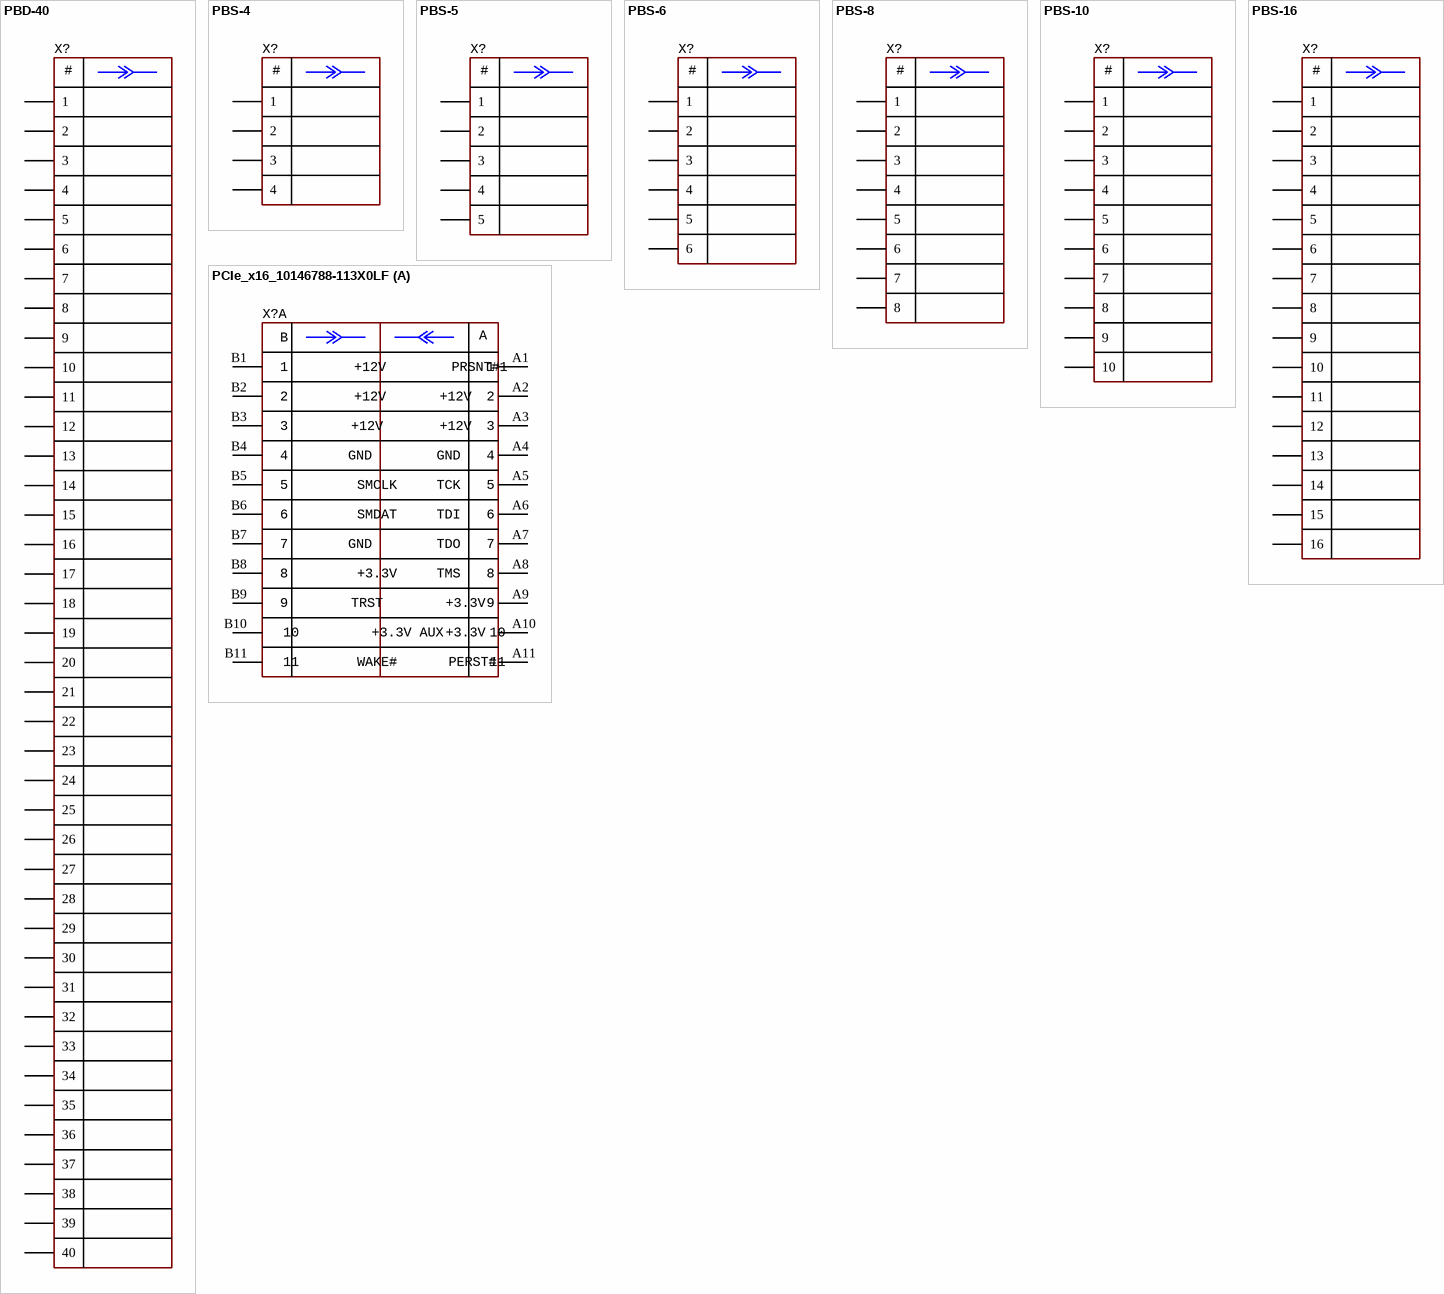
[diagram p3: symbols PBD-40 to PCIe_x16_10146788-113X0LF]

## PBD-40
designator X?
Manufacturer: Connfly; ValueManufacturerPartNumber: Connector, 20pin, 2.54mm, 500VAC, 3A; PartNumber: PLS-20; TypeConnector: Connector; VoltageMax: 500VAC; Pitch: 2.54mm; CurrentMax: 3A; Multichannel: 20pin; CommentText: "Разъем"; HelpURL: https://www.chipdip.ru/product/pls-20
footprint CON: PBD-40 (2.00)
footprint CON: PBD-40 (2.54)
pins: 1, 2, 3, 4, 5, 6, 7, 8, 9, 10, 11, 12, 13, 14, 15, 16, 17, 18, 19, 20, 21, 22, 23, 24, 25, 26, 27, 28, 29, 30, 31, 32, 33, 34, 35, 36, 37, 38, 39, 40
text: #

## PBS-4
designator X?
Manufacturer: Connfly; ValueManufacturerPartNumber: Connector, 4pin, 2.54mm, 500VAC, 3A; PartNumber: PBS-4; TypeConnector: Connector; VoltageMax: 500VAC; Pitch: 2.54mm; CurrentMax: 3A; Multichannel: 4pin; CommentText: "Разъем"; HelpURL: https://www.chipdip.ru/product/pbs-4
footprint CON: PBS-4 (PBS-5)
pins: 1, 2, 3 (power), 4 (power)
text: #

## PBS-5
designator X?
Manufacturer: Connfly; ValueManufacturerPartNumber: Connector, 5pin, 2.54mm, 500VAC, 3A; PartNumber: PBS-5; TypeConnector: Connector; VoltageMax: 500VAC; Pitch: 2.54mm; CurrentMax: 3A; Multichannel: 5pin; CommentText: "Разъем"; HelpURL: https://www.chipdip.ru/product/pbs-5
footprint CON: PBS-5 (PBS-5)
pins: 1, 2, 3 (power), 4 (power), 5 (power)
text: #

## PBS-6
designator X?
Manufacturer: Connfly; ValueManufacturerPartNumber: Connector, 6pin, 2.54mm, 500VAC, 3A; PartNumber: PBS-6; TypeConnector: Connector; VoltageMax: 500VAC; Pitch: 2.54mm; CurrentMax: 3A; Multichannel: 6pin; CommentText: "Разъем"; HelpURL: https://www.chipdip.ru/product/pbs-6
footprint CON: PBS-6 (PBS-6)
pins: 1, 2, 3 (power), 4 (power), 5 (power), 6 (power)
text: #

## PBS-8
designator X?
Manufacturer: Connfly; ValueManufacturerPartNumber: Connector, 8pin, 2.54mm, 500VAC, 3A; PartNumber: PBS-8; TypeConnector: Connector; VoltageMax: 500VAC; Pitch: 2.54mm; CurrentMax: 3A; Multichannel: 8pin; CommentText: "Разъем"; HelpURL: https://www.chipdip.ru/product/pbs-8
footprint CON: PBS-8 (PBS-8)
pins: 1, 2, 3 (power), 4 (power), 5 (power), 6 (power), 7 (power), 8 (power)
text: #

## PBS-10
designator X?
Manufacturer: Connfly; ValueManufacturerPartNumber: Connector, 10pin, 2.54mm, 500VAC, 3A; PartNumber: PBS-10; TypeConnector: Connector; VoltageMax: 500VAC; Pitch: 2.54mm; CurrentMax: 3A; Multichannel: 10pin; CommentText: "Разъем"; HelpURL: https://www.chipdip.ru/product/pbs-10
footprint CON: PBS-10 (PBS-10)
pins: 1, 2, 3 (power), 4 (power), 5 (power), 6 (power), 7 (power), 8 (power), 9 (power), 10 (power)
text: #

## PBS-16
designator X?
Manufacturer: Connfly; ValueManufacturerPartNumber: Connector, 16pin, 2.54mm, 500VAC, 3A; PartNumber: PBS-16; TypeConnector: Connector; VoltageMax: 500VAC; Pitch: 2.54mm; CurrentMax: 3A; Multichannel: 16pin; CommentText: "Разъем"; HelpURL: https://www.chipdip.ru/product/pbs16
footprint CON: PBS-16 (PBS-16)
pins: 1, 2, 3 (power), 4 (power), 5 (power), 6 (power), 7 (power), 8 (power), 9 (power), 10 (power), 11 (power), 12 (power), 13 (power), 14 (power), 15 (power), 16 (power)
text: #

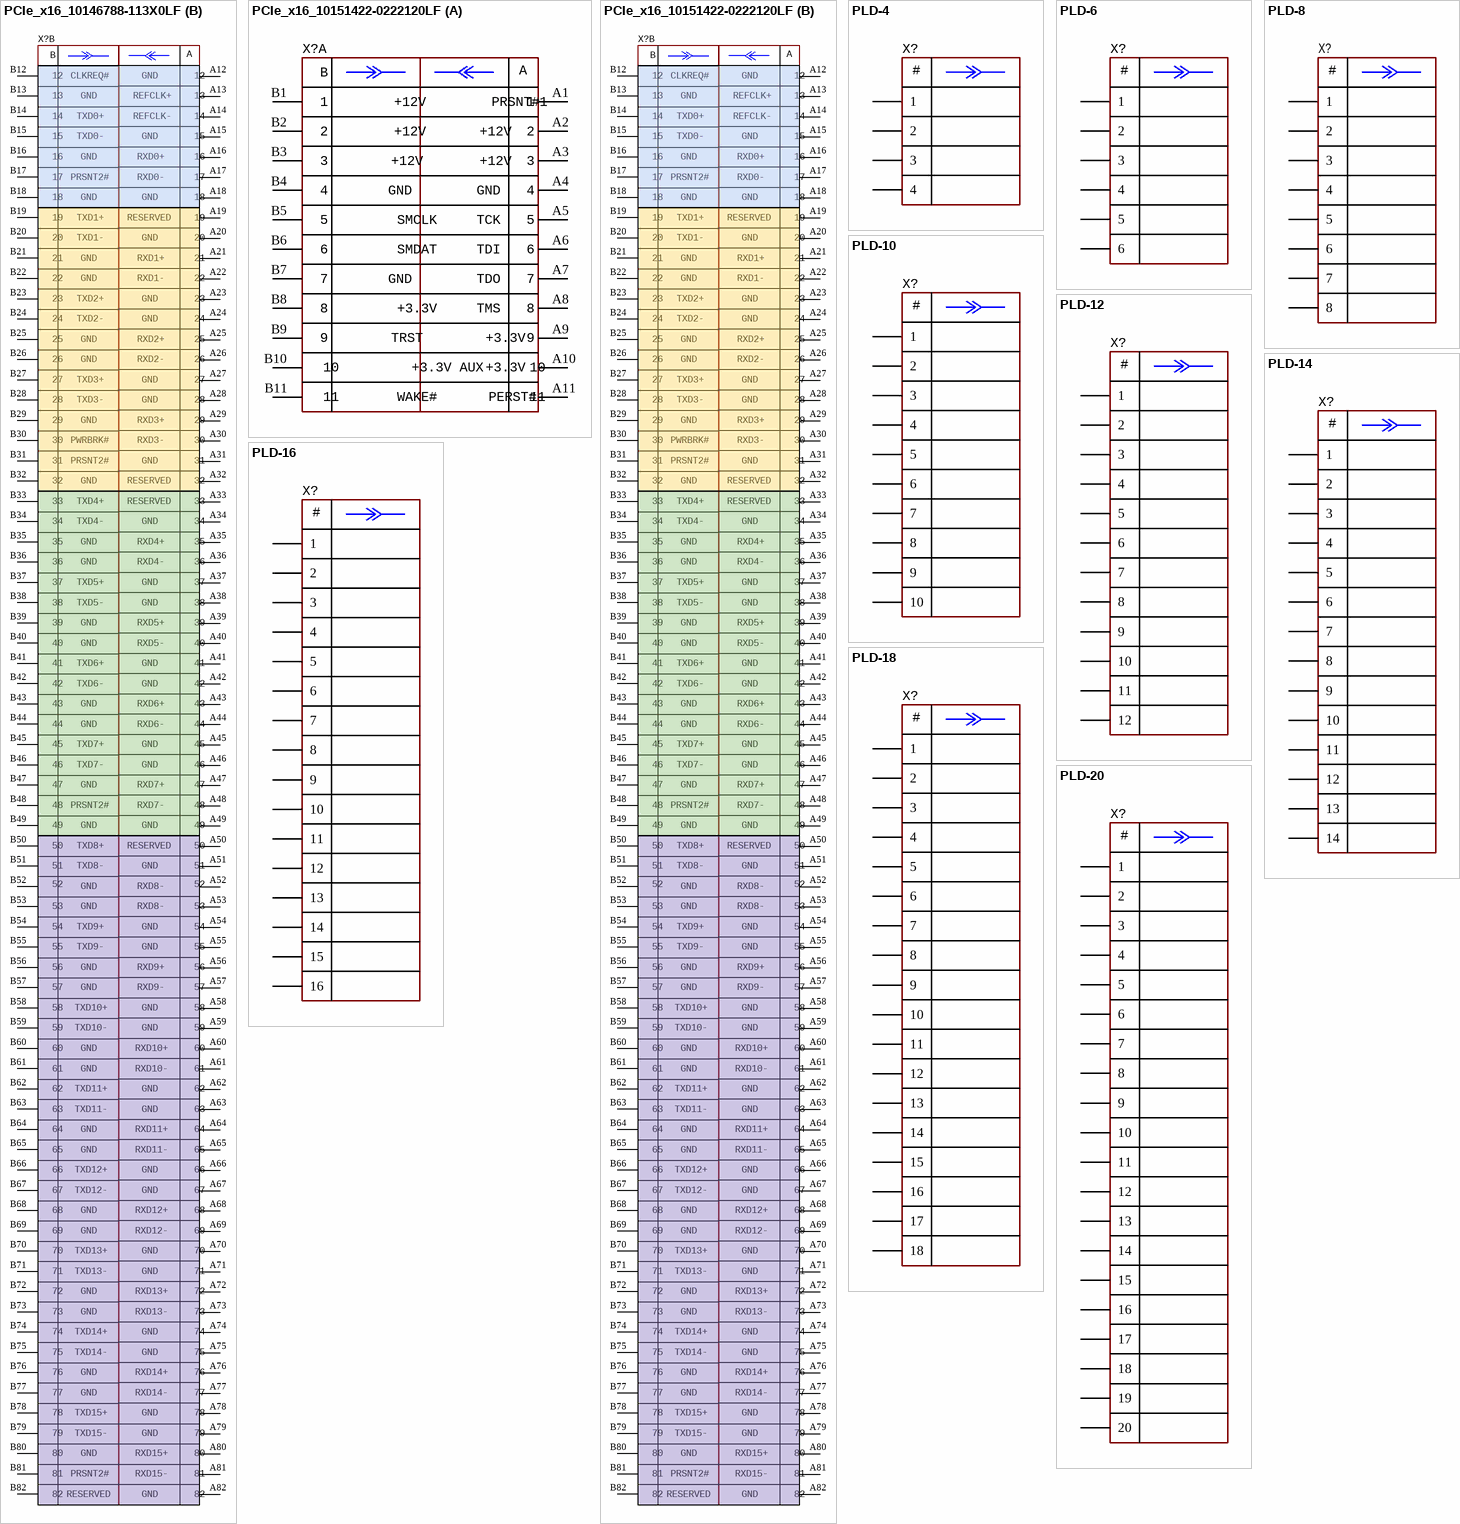
[diagram p4: symbols PCIe_x16_10146788-113X0LF to PLD-20]

## PCIe_x16_10146788-113X0LF
designator X?
Vertical; Manufacturer: Amphenol; ValueManufacturerPartNumber: Connector, 164pin, 1mm, x16 line, Board-to-Board; PartNumber: 10146788-113X0LF; TypeConnector: Connector; VoltageMax: x16 line; Pitch: 1mm; CurrentMax: Board-to-Board; Multichannel: 164pin; CommentText: PCIe gen 4; HelpURL: https://www.amphenol-icc.com/pci-express-10146788113x0lf.html
footprint CON: 10146788-113X0LF (PCIe gen 4, Amphenol)
part A pins: A1, A2, A3, A4, A5, A6, A7, A8, A9, A10, A11, B1, B2, B3, B4, B5, B6, B7, B8, B9, B10, B11
part B pins: A12, A13, A14, A15, A16, A17, A18, A19, A20, A21, A22, A23, A24, A25, A26, A27, A28, A29, A30, A31, A32, A33, A34, A35, A36, A37, A38, A39, A40, A41, A42, A43, A44, A45, A46, A47, A48, A49, A50, A51, A52, A53, A54, A55, A56, A57, A58, A59, A60, A61, A62, A63, A64, A65, A66, A67, A68, A69, A70, A71, A72, A73, A74, A75, A76, A77, A78, A79, A80, A81, A82, B12, B13, B14, B15, B16, B17, B18, B19, B20, B21, B22, B23, B24, B25, B26, B27, B28, B29, B30, B31, B32, B33, B34, B35, B36, B37, B38, B39, B40, B41, B42, B43, B44, B45, B46, B47, B48, B49, B50, B51, B52, B53, B54, B55, B56, B57, B58, B59, B60, B61, B62, B63, B64, B65, B66, B67, B68, B69, B70, B71, B72, B73, B74, B75, B76, B77, B78, B79, B80, B81, B82
part A text: B; A; 1; +12V; PRSNT#1; 2; 3; 4; GND; 5; SMCLK; TCK; 6; SMDAT; TDI; 7; TDO; 8; +3.3V; TMS; 9; TRST; 10; +3.3V AUX; 11; WAKE#; PERST#
part B text: B; A; 12; CLKREQ#; GND; 13; REFCLK+; 14; TXD0+; REFCLK-; 15; TXD0-; 16; RXD0+; 17; PRSNT2#; RXD0-; 18; 19; TXD1+; RESERVED; 20; TXD1-; 21; RXD1+; 22; RXD1-; 23; TXD2+; 24; TXD2-; 25; RXD2+; 26; RXD2-; 27; TXD3+; 28; TXD3-; 29; RXD3+; 30; PWRBRK#; RXD3-; 31; 32; 33; TXD4+; 34; TXD4-; 35; RXD4+; 36; RXD4-; 37; TXD5+; 38; TXD5-; 39; RXD5+; 40; RXD5-; 41; TXD6+; 42; TXD6-; 43; RXD6+; 44; RXD6-; 45; TXD7+; 46; TXD7-; 47; RXD7+; 48; RXD7-; 49; 50; TXD8+; 51; TXD8-; 52; RXD8-; 53; 54; TXD9+; 55; TXD9-; 56; RXD9+; 57; RXD9-; 58; TXD10+; 59; TXD10-; 60; RXD10+; 61; RXD10-; 62; TXD11+; 63; TXD11-; 64; RXD11+; 65; RXD11-; 66; TXD12+; 67; TXD12-; 68; RXD12+; 69; RXD12-; 70; TXD13+; 71; TXD13-; 72; RXD13+; 73; RXD13-; 74; TXD14+; 75; TXD14-; 76; RXD14+; 77; RXD14-; 78; TXD15+; 79; TXD15-; 80; RXD15+; 81; RXD15-; 82

## PCIe_x16_10151422-0222120LF
designator X?
Manufacturer: Amphenol; ValueManufacturerPartNumber: Connector, 164pin, 1mm, x16 line, Board-to-Board; PartNumber: 10151422-0222120LF; TypeConnector: Connector; VoltageMax: x16 line; Pitch: 1mm; CurrentMax: Board-to-Board; Multichannel: 164pin; CommentText: PCIe gen 4; HelpURL: https://www.amphenol-icc.com/pci-express-101514220222120lf.html
footprint CON: 10151422-0222120LF (PCIe gen 4, Amphenol)
part A pins: A1, A2, A3, A4, A5, A6, A7, A8, A9, A10, A11, B1, B2, B3, B4, B5, B6, B7, B8, B9, B10, B11
part B pins: A12, A13, A14, A15, A16, A17, A18, A19, A20, A21, A22, A23, A24, A25, A26, A27, A28, A29, A30, A31, A32, A33, A34, A35, A36, A37, A38, A39, A40, A41, A42, A43, A44, A45, A46, A47, A48, A49, A50, A51, A52, A53, A54, A55, A56, A57, A58, A59, A60, A61, A62, A63, A64, A65, A66, A67, A68, A69, A70, A71, A72, A73, A74, A75, A76, A77, A78, A79, A80, A81, A82, B12, B13, B14, B15, B16, B17, B18, B19, B20, B21, B22, B23, B24, B25, B26, B27, B28, B29, B30, B31, B32, B33, B34, B35, B36, B37, B38, B39, B40, B41, B42, B43, B44, B45, B46, B47, B48, B49, B50, B51, B52, B53, B54, B55, B56, B57, B58, B59, B60, B61, B62, B63, B64, B65, B66, B67, B68, B69, B70, B71, B72, B73, B74, B75, B76, B77, B78, B79, B80, B81, B82
part A text: B; A; 1; +12V; PRSNT#1; 2; 3; 4; GND; 5; SMCLK; TCK; 6; SMDAT; TDI; 7; TDO; 8; +3.3V; TMS; 9; TRST; 10; +3.3V AUX; 11; WAKE#; PERST#
part B text: B; A; 12; CLKREQ#; GND; 13; REFCLK+; 14; TXD0+; REFCLK-; 15; TXD0-; 16; RXD0+; 17; PRSNT2#; RXD0-; 18; 19; TXD1+; RESERVED; 20; TXD1-; 21; RXD1+; 22; RXD1-; 23; TXD2+; 24; TXD2-; 25; RXD2+; 26; RXD2-; 27; TXD3+; 28; TXD3-; 29; RXD3+; 30; PWRBRK#; RXD3-; 31; 32; 33; TXD4+; 34; TXD4-; 35; RXD4+; 36; RXD4-; 37; TXD5+; 38; TXD5-; 39; RXD5+; 40; RXD5-; 41; TXD6+; 42; TXD6-; 43; RXD6+; 44; RXD6-; 45; TXD7+; 46; TXD7-; 47; RXD7+; 48; RXD7-; 49; 50; TXD8+; 51; TXD8-; 52; RXD8-; 53; 54; TXD9+; 55; TXD9-; 56; RXD9+; 57; RXD9-; 58; TXD10+; 59; TXD10-; 60; RXD10+; 61; RXD10-; 62; TXD11+; 63; TXD11-; 64; RXD11+; 65; RXD11-; 66; TXD12+; 67; TXD12-; 68; RXD12+; 69; RXD12-; 70; TXD13+; 71; TXD13-; 72; RXD13+; 73; RXD13-; 74; TXD14+; 75; TXD14-; 76; RXD14+; 77; RXD14-; 78; TXD15+; 79; TXD15-; 80; RXD15+; 81; RXD15-; 82

## PLD-4
designator X?
Manufacturer: Connfly; ValueManufacturerPartNumber: Connector, 6pin, 2.54mm, 500VAC, 3A; PartNumber: PLD-4; TypeConnector: Connector; VoltageMax: 500VAC; Pitch: 2.54mm; CurrentMax: 3A; Multichannel: 6pin; CommentText: "Разъем"; HelpURL: https://www.chipdip.ru/product/pld-6
footprint CON: PLD-4
pins: 1, 2, 3 (power), 4 (power)
text: #

## PLD-6
designator X?
Manufacturer: Connfly; ValueManufacturerPartNumber: Connector, 6pin, 2.54mm, 500VAC, 3A; PartNumber: PLD-6; TypeConnector: Connector; VoltageMax: 500VAC; Pitch: 2.54mm; CurrentMax: 3A; Multichannel: 6pin; CommentText: "Разъем"; HelpURL: https://www.chipdip.ru/product/pld-6
footprint CON: PLD-6
pins: 1, 2, 3 (power), 4 (power), 5 (power), 6 (power)
text: #

## PLD-8
designator X?
Manufacturer: Connfly; ValueManufacturerPartNumber: Connector, 8pin, 2.54mm, 500VAC, 3A; PartNumber: PLD-8; TypeConnector: Connector; VoltageMax: 500VAC; Pitch: 2.54mm; CurrentMax: 3A; Multichannel: 8pin; CommentText: "Разъем"; HelpURL: https://www.chipdip.ru/product/pld-8-ds1021-2x4
footprint CON: PLD-8 (PLD-40 8 pin header)
pins: 1, 2, 3 (power), 4 (power), 5 (power), 6 (power), 7 (power), 8 (power)
text: #

## PLD-10
designator X?
Manufacturer: Connfly; ValueManufacturerPartNumber: Connector, 10pin, 2.54mm, 500VAC, 3A; PartNumber: PLD-10; TypeConnector: Connector; VoltageMax: 500VAC; Pitch: 2.54mm; CurrentMax: 3A; Multichannel: 10pin; CommentText: "Разъем"; HelpURL: https://www.chipdip.ru/product/pld-10
footprint CON: PLD-10
pins: 1, 2, 3 (power), 4 (power), 5 (power), 6 (power), 7 (power), 8 (power), 9 (power), 10 (power)
text: #

## PLD-12
designator X?
Manufacturer: Connfly; ValueManufacturerPartNumber: Connector, 20pin, 2.54mm, 500VAC, 3A; PartNumber: PLD-20; TypeConnector: Connector; VoltageMax: 500VAC; Pitch: 2.54mm; CurrentMax: 3A; Multichannel: 20pin; CommentText: "Разъем"; HelpURL: https://www.chipdip.ru/product/pld-20
footprint CON: PLD-12
pins: 1, 2, 3 (power), 4 (power), 5 (power), 6 (power), 7 (power), 8 (power), 9 (power), 10 (power), 11 (power), 12 (power)
text: #

## PLD-14
designator X?
Manufacturer: Connfly; ValueManufacturerPartNumber: Connector, 20pin, 2.54mm, 500VAC, 3A; PartNumber: PLD-20; TypeConnector: Connector; VoltageMax: 500VAC; Pitch: 2.54mm; CurrentMax: 3A; Multichannel: 20pin; CommentText: "Разъем"; HelpURL: https://www.chipdip.ru/product/pld-20
footprint CON: PLD-14
pins: 1, 2, 3 (power), 4 (power), 5 (power), 6 (power), 7 (power), 8 (power), 9 (power), 10 (power), 11 (power), 12 (power), 13 (power), 14 (power)
text: #

## PLD-16
designator X?
Manufacturer: Connfly; ValueManufacturerPartNumber: Connector, 20pin, 2.54mm, 500VAC, 3A; PartNumber: PLD-20; TypeConnector: Connector; VoltageMax: 500VAC; Pitch: 2.54mm; CurrentMax: 3A; Multichannel: 20pin; CommentText: "Разъем"; HelpURL: https://www.chipdip.ru/product/pld-20
footprint CON: PLD-16
pins: 1, 2, 3 (power), 4 (power), 5 (power), 6 (power), 7 (power), 8 (power), 9 (power), 10 (power), 11 (power), 12 (power), 13 (power), 14 (power), 15 (power), 16 (power)
text: #

## PLD-18
designator X?
Manufacturer: Connfly; ValueManufacturerPartNumber: Connector, 20pin, 2.54mm, 500VAC, 3A; PartNumber: PLD-20; TypeConnector: Connector; VoltageMax: 500VAC; Pitch: 2.54mm; CurrentMax: 3A; Multichannel: 20pin; CommentText: "Разъем"; HelpURL: https://www.chipdip.ru/product/pld-20
footprint CON: PLD-18
pins: 1, 2, 3 (power), 4 (power), 5 (power), 6 (power), 7 (power), 8 (power), 9 (power), 10 (power), 11 (power), 12 (power), 13 (power), 14 (power), 15 (power), 16 (power), 17 (power), 18 (power)
text: #

## PLD-20
designator X?
Manufacturer: Connfly; ValueManufacturerPartNumber: Connector, 20pin, 2.54mm, 500VAC, 3A; PartNumber: PLD-20; TypeConnector: Connector; VoltageMax: 500VAC; Pitch: 2.54mm; CurrentMax: 3A; Multichannel: 20pin; CommentText: "Разъем"; HelpURL: https://www.chipdip.ru/product/pld-20
footprint CON: PLD-20
pins: 1, 2, 3 (power), 4 (power), 5 (power), 6 (power), 7 (power), 8 (power), 9 (power), 10 (power), 11 (power), 12 (power), 13 (power), 14 (power), 15 (power), 16 (power), 17 (power), 18 (power), 19 (power), 20 (power)
text: #

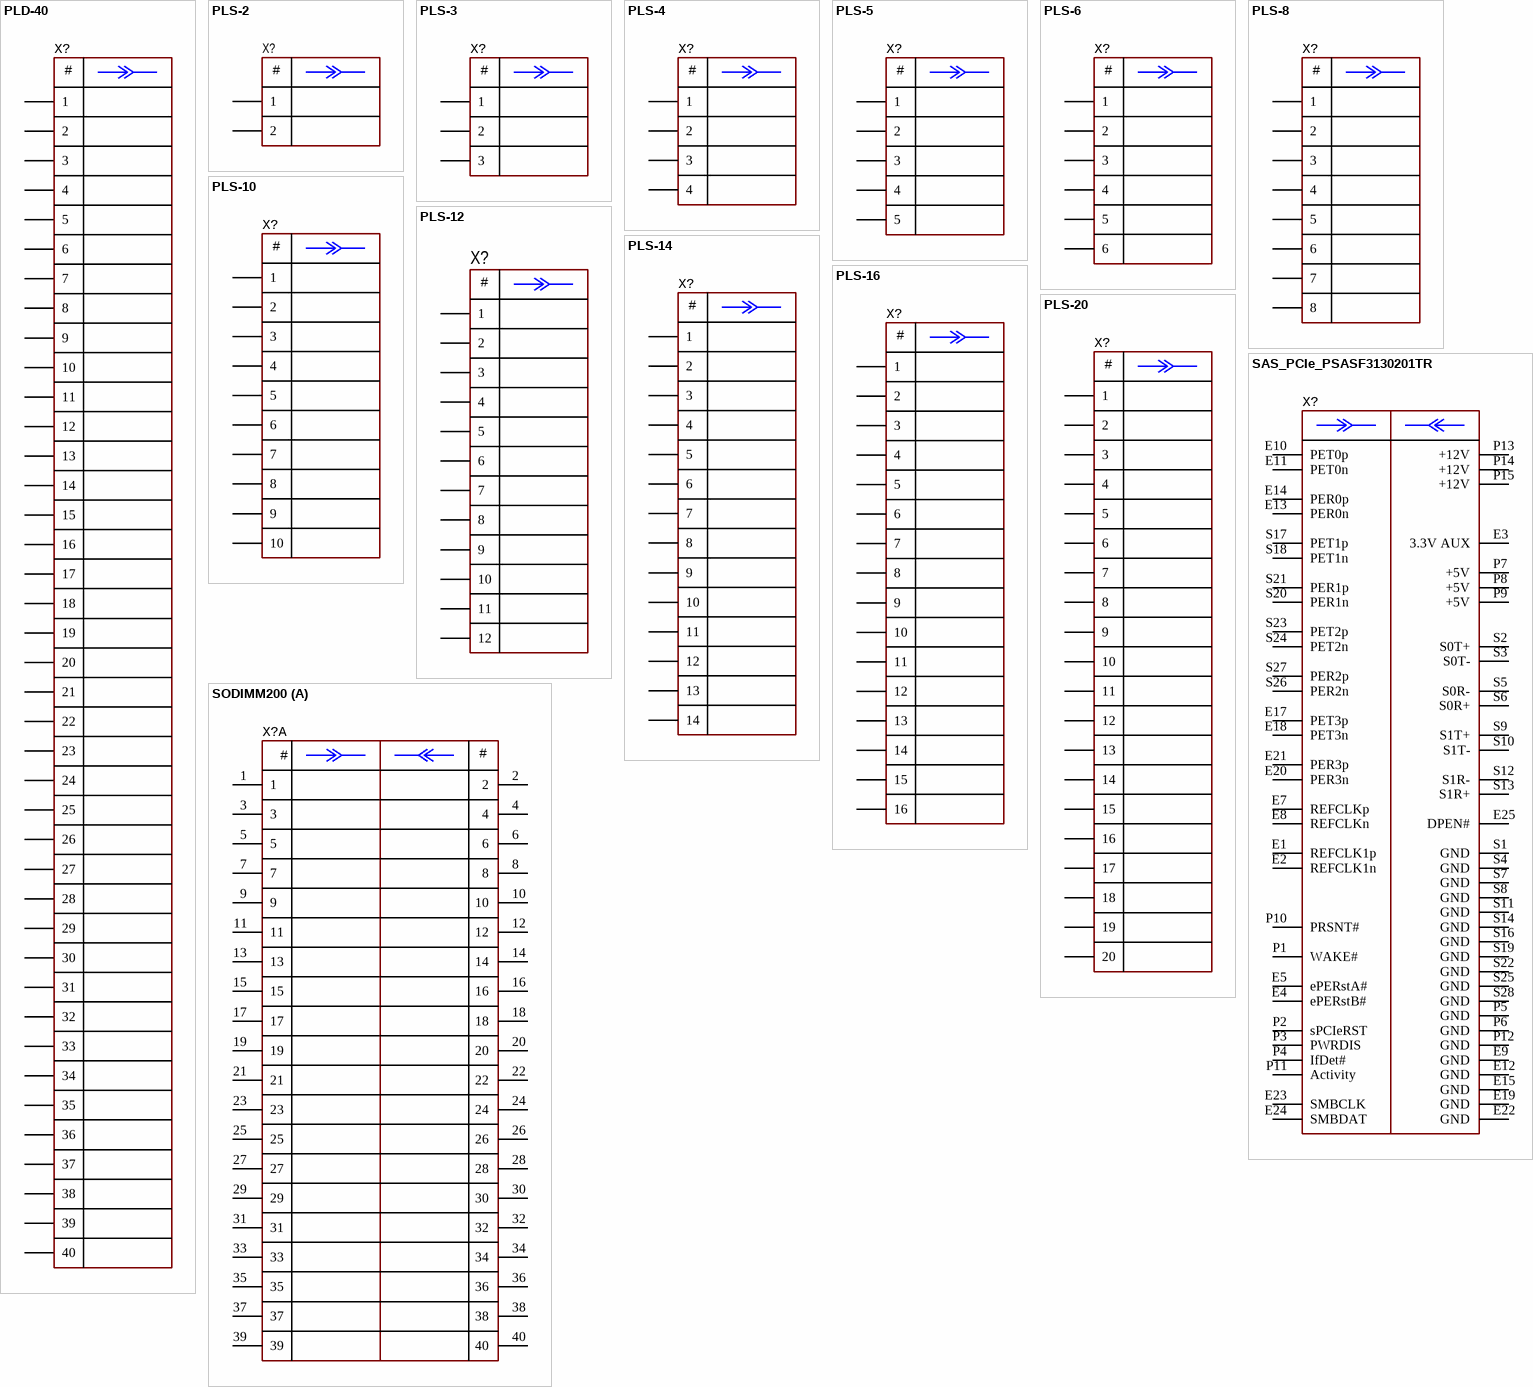
[diagram p5: symbols PLD-40 to SODIMM200]

## PLD-40
designator X?
Manufacturer: Connfly; ValueManufacturerPartNumber: Connector, 40pin, 2mm, 500VAC, 3A; PartNumber: PLD-40; TypeConnector: Connector; VoltageMax: 500VAC; Pitch: 2mm; CurrentMax: 3A; Multichannel: 40pin; CommentText: "Разъем"; HelpURL: https://www.chipdip.ru/product/pld2-40
footprint CON: PLD-40 (2.00)
pins: 1, 2, 3, 4, 5, 6, 7, 8, 9, 10, 11, 12, 13, 14, 15, 16, 17, 18, 19, 20, 21, 22, 23, 24, 25, 26, 27, 28, 29, 30, 31, 32, 33, 34, 35, 36, 37, 38, 39, 40
text: #

## PLS-2
designator X?
Manufacturer: Connfly; ValueManufacturerPartNumber: Connector, 2pin, 2.54mm, 500VAC, 3A; PartNumber: PLS-2; TypeConnector: Connector; VoltageMax: 500VAC; Pitch: 2.54mm; CurrentMax: 3A; Multichannel: 2pin; CommentText: "Разъем"; HelpURL: https://www.chipdip.ru/product/pls-2
footprint CON: PLS-2
footprint CON: PLS-2R
pins: 1, 2
text: #

## PLS-3
designator X?
Manufacturer: Connfly; ValueManufacturerPartNumber: Connector, 3pin, 2.54mm, 500VAC, 3A; PartNumber: PLS-3; TypeConnector: Connector; VoltageMax: 500VAC; Pitch: 2.54mm; CurrentMax: 3A; Multichannel: 3pin; CommentText: "Разъем"; HelpURL: https://www.chipdip.ru/product/pls-3
footprint CON: PLS-3
pins: 1, 2, 3 (power)
text: #

## PLS-4
designator X?
Manufacturer: Connfly; ValueManufacturerPartNumber: Connector, 4pin, 2.54mm, 500VAC, 3A; PartNumber: PLS-4; TypeConnector: Connector; VoltageMax: 500VAC; Pitch: 2.54mm; CurrentMax: 3A; Multichannel: 4pin; CommentText: "Разъем"; HelpURL: https://www.chipdip.ru/product/pls-4
footprint CON: PLS-4 (PLS-40 4 pin header)
footprint CON: PLS-4R (PLS-4R 4 pin header)
pins: 1, 2, 3 (power), 4 (power)
text: #

## PLS-5
designator X?
Manufacturer: Connfly; ValueManufacturerPartNumber: Connector, 5pin, 2.54mm, 500VAC, 3A; PartNumber: PLS-5; TypeConnector: Connector; VoltageMax: 500VAC; Pitch: 2.54mm; CurrentMax: 3A; Multichannel: 5pin; CommentText: "Разъем"; HelpURL: https://www.chipdip.ru/product/pls-5
footprint CON: PLS-5
pins: 1, 2, 3 (power), 4 (power), 5 (power)
text: #

## PLS-6
designator X?
Manufacturer: Connfly; ValueManufacturerPartNumber: Connector, 6pin, 2.54mm, 500VAC, 3A; PartNumber: PLS-6; TypeConnector: Connector; VoltageMax: 500VAC; Pitch: 2.54mm; CurrentMax: 3A; Multichannel: 6pin; CommentText: "Разъем"; HelpURL: https://www.chipdip.ru/product/pls-6
footprint CON: PLS-6
pins: 1, 2, 3 (power), 4 (power), 5 (power), 6 (power)
text: #

## PLS-8
designator X?
Manufacturer: Connfly; ValueManufacturerPartNumber: Connector, 8pin, 2.54mm, 500VAC, 3A; PartNumber: PLS-8; TypeConnector: Connector; VoltageMax: 500VAC; Pitch: 2.54mm; CurrentMax: 3A; Multichannel: 8pin; CommentText: "Разъем"; HelpURL: https://www.chipdip.ru/product/pls-8-ds1021-1-8sf112
footprint CON: PLS-8 (PLS-40 8 pin header)
pins: 1, 2, 3 (power), 4 (power), 5 (power), 6 (power), 7 (power), 8 (power)
text: #

## PLS-10
designator X?
Manufacturer: Connfly; ValueManufacturerPartNumber: Connector, 10pin, 2.54mm, 500VAC, 3A; PartNumber: PLS-10; TypeConnector: Connector; VoltageMax: 500VAC; Pitch: 2.54mm; CurrentMax: 3A; Multichannel: 10pin; CommentText: "Разъем"; HelpURL: https://www.chipdip.ru/product/pls-10
footprint CON: PLS-10 (PLS-40 10 pin header)
pins: 1, 2, 3 (power), 4 (power), 5 (power), 6 (power), 7 (power), 8 (power), 9 (power), 10 (power)
text: #

## PLS-12
designator X?
Manufacturer: Connfly; ValueManufacturerPartNumber: Connector, 12pin, 2.54mm, 500VAC, 3A; PartNumber: PLS-12; TypeConnector: Connector; VoltageMax: 500VAC; Pitch: 2.54mm; CurrentMax: 3A; Multichannel: 12pin; CommentText: "Разъем"; HelpURL: https://www.chipdip.ru/product/pls-12
footprint CON: PLS-12 (PLS-40 12 pin header)
pins: 1, 2, 3 (power), 4 (power), 5 (power), 6 (power), 7 (power), 8 (power), 9 (power), 10 (power), 11 (power), 12 (power)
text: #

## PLS-14
designator X?
Manufacturer: Connfly; ValueManufacturerPartNumber: Connector, 14pin, 2.54mm, 500VAC, 3A; PartNumber: PLS-14; TypeConnector: Connector; VoltageMax: 500VAC; Pitch: 2.54mm; CurrentMax: 3A; Multichannel: 14pin; CommentText: "Разъем"; HelpURL: https://www.chipdip.ru/product/pls-14
footprint CON: PLS-14
pins: 1, 2, 3 (power), 4 (power), 5 (power), 6 (power), 7 (power), 8 (power), 9 (power), 10 (power), 11 (power), 12 (power), 13 (power), 14 (power)
text: #

## PLS-16
designator X?
Manufacturer: Connfly; ValueManufacturerPartNumber: Connector, 16pin, 2.54mm, 500VAC, 3A; PartNumber: PLS-16; TypeConnector: Connector; VoltageMax: 500VAC; Pitch: 2.54mm; CurrentMax: 3A; Multichannel: 16pin; CommentText: "Разъем"; HelpURL: https://www.chipdip.ru/product/pls-16
footprint CON: PLS-16
pins: 1, 2, 3 (power), 4 (power), 5 (power), 6 (power), 7 (power), 8 (power), 9 (power), 10 (power), 11 (power), 12 (power), 13 (power), 14 (power), 15 (power), 16 (power)
text: #

## PLS-20
designator X?
Manufacturer: Connfly; ValueManufacturerPartNumber: Connector, 20pin, 2.54mm, 500VAC, 3A; PartNumber: PLS-20; TypeConnector: Connector; VoltageMax: 500VAC; Pitch: 2.54mm; CurrentMax: 3A; Multichannel: 20pin; CommentText: "Разъем"; HelpURL: https://www.chipdip.ru/product/pls-20
footprint CON: PLS-20
pins: 1, 2, 3 (power), 4 (power), 5 (power), 6 (power), 7 (power), 8 (power), 9 (power), 10 (power), 11 (power), 12 (power), 13 (power), 14 (power), 15 (power), 16 (power), 17 (power), 18 (power), 19 (power), 20 (power)
text: #

## SAS_PCIe_PSASF3130201TR
designator X?
Manufacturer: Amphenol; ValueManufacturerPartNumber: Connector, 68 pins, 0.8/1.27mm, 1000VAC, 1.5A/pin; PartNumber: PSASF3130201TR; TypeConnector: Connector; VoltageMax: 1000VAC; Pitch: 0.8/1.27mm; CurrentMax: 1.5A/pin; Multichannel: 68 pins; CommentText: SAS/PCIe; HelpURL: https://www.amphenol-icc.com/sas-pcie-psasf3130201tr.html
footprint CON: PSASF3130201TR
pins: E1 REFCLK1p, E2 REFCLK1n, E3 3.3V AUX, E4 ePERstB#, E5 ePERstA#, E7 REFCLKp, E8 REFCLKn, E9 GND, E10 PET0p, E11 PET0n, E12 GND, E13 PER0n, E14 PER0p, E15 GND, E17 PET3p, E18 PET3n, E19 GND, E20 PER3n, E21 PER3p, E22 GND, E23 SMBCLK, E24 SMBDAT, E25 DPEN#, P1 WAKE#, P2 sPCIeRST, P3 PWRDIS, P4 IfDet#, P5 GND, P6 GND, P7 +5V, P8 +5V, P9 +5V, P10 PRSNT#, P11 Activity, P12 GND, P13 +12V, P14 +12V, P15 +12V, S1 GND, S2 S0T+, S3 S0T-, S4 GND, S5 S0R-, S6 S0R+, S7 GND, S8 GND, S9 S1T+, S10 S1T-, S11 GND, S12 S1R-, S13 S1R+, S14 GND, S16 GND, S17 PET1p, S18 PET1n, S19 GND, S20 PER1n, S21 PER1p, S22 GND, S23 PET2p, S24 PET2n, S25 GND, S26 PER2n, S27 PER2p, S28 GND

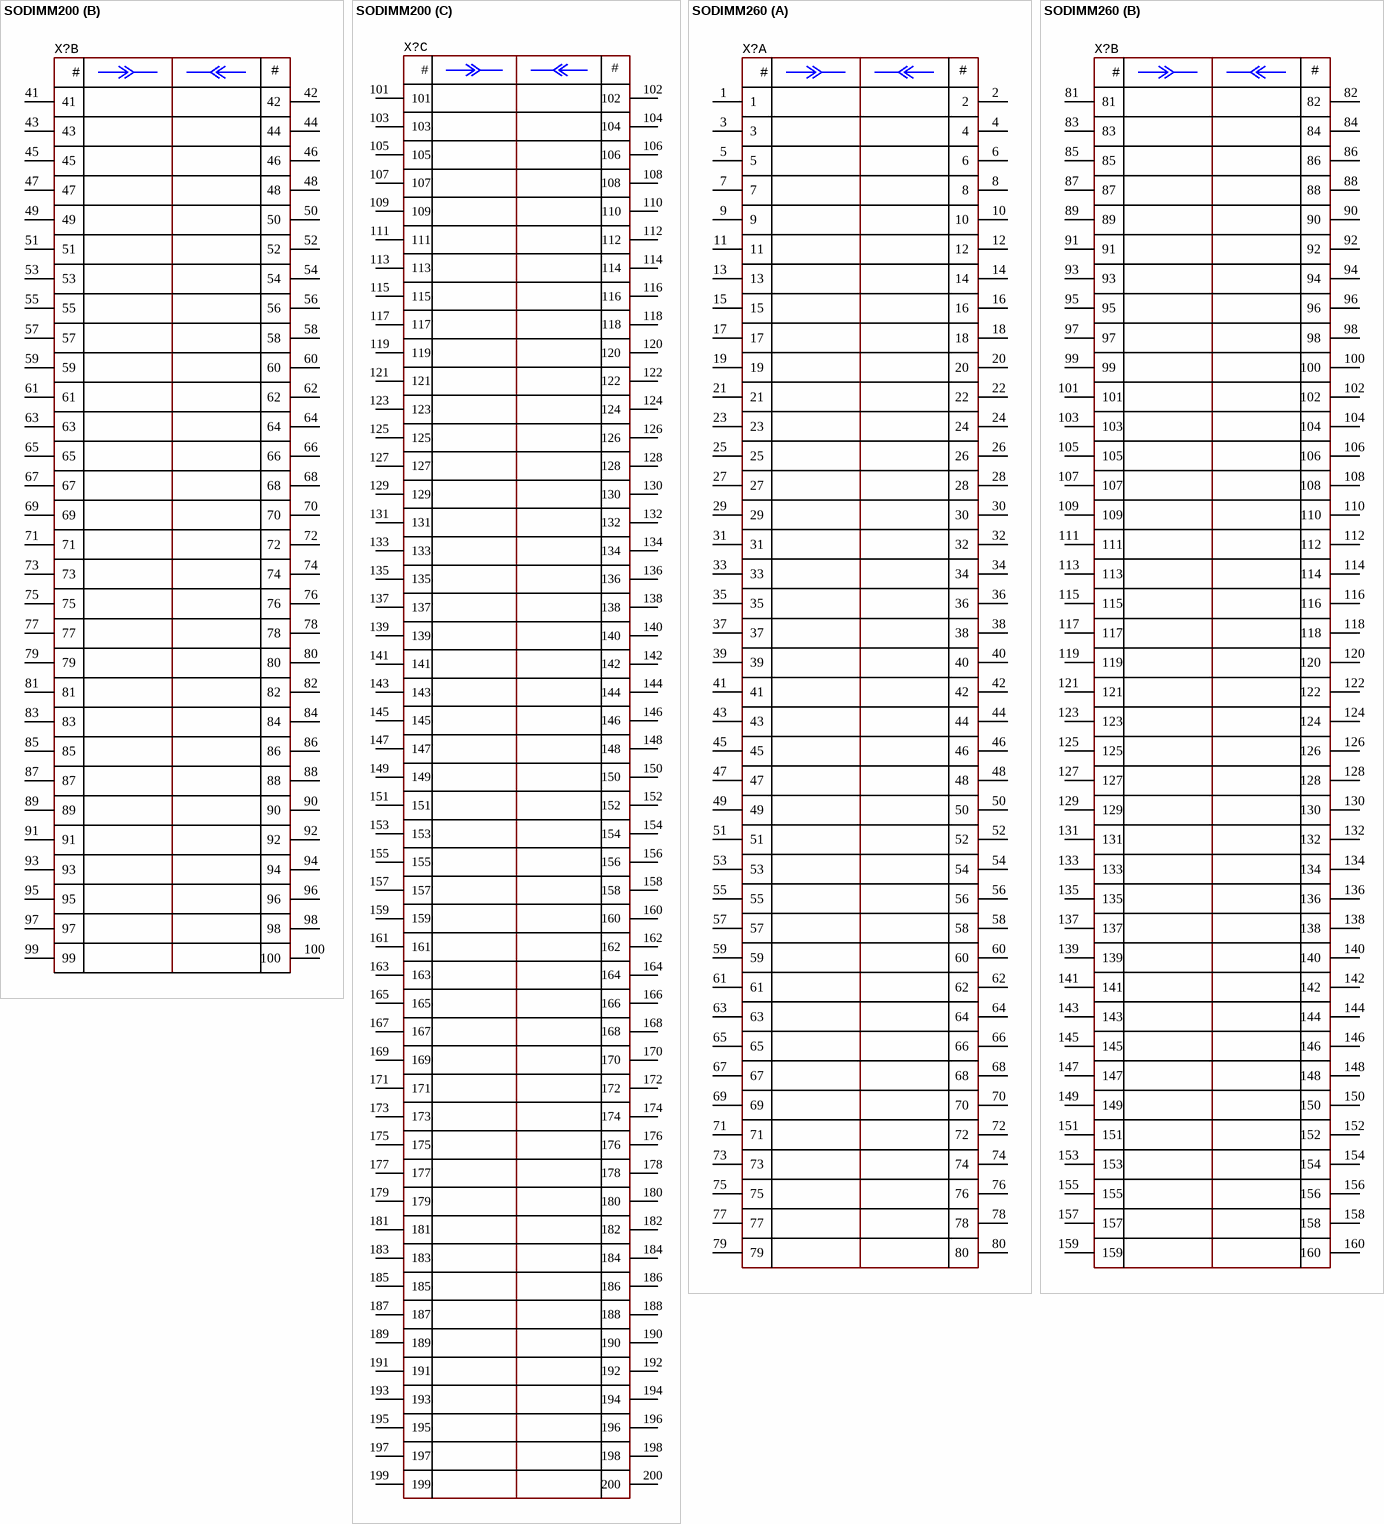
[diagram p6: symbols SODIMM200 to SODIMM260]

## SODIMM200
designator X?
Manufacturer: TE connectivity; ValueManufacturerPartNumber: Connector, 200pins, 2mm, SODIMM DDR2, Edge Card; PartNumber: 1473005-1; TypeConnector: Connector; VoltageMax: SODIMM DDR2; Pitch: 2mm; CurrentMax: Edge Card; Multichannel: 200pins; CommentText: SODIMM; HelpURL: https://www.digikey.com/en/products/detail/te-connectivity-amp-connectors/1473005-1/1890691
footprint CON: 1473005-1 (TE) (SODIMM DDR2, 200 pins)
part A pins: 1, 2, 3, 4, 5, 6, 7, 8, 9, 10, 11, 12, 13, 14, 15, 16, 17, 18, 19, 20, 21, 22, 23, 24, 25, 26, 27, 28, 29, 30, 31, 32, 33, 34, 35, 36, 37, 38, 39, 40
part B pins: 41, 42, 43, 44, 45, 46, 47, 48, 49, 50, 51, 52, 53, 54, 55, 56, 57, 58, 59, 60, 61, 62, 63, 64, 65, 66, 67, 68, 69, 70, 71, 72, 73, 74, 75, 76, 77, 78, 79, 80, 81, 82, 83, 84, 85, 86, 87, 88, 89, 90, 91, 92, 93, 94, 95, 96, 97, 98, 99, 100
part C pins: 101, 102, 103, 104, 105, 106, 107, 108, 109, 110, 111, 112, 113, 114, 115, 116, 117, 118, 119, 120, 121, 122, 123, 124, 125, 126, 127, 128, 129, 130, 131, 132, 133, 134, 135, 136, 137, 138, 139, 140, 141, 142, 143, 144, 145, 146, 147, 148, 149, 150, 151, 152, 153, 154, 155, 156, 157, 158, 159, 160, 161, 162, 163, 164, 165, 166, 167, 168, 169, 170, 171, 172, 173, 174, 175, 176, 177, 178, 179, 180, 181, 182, 183, 184, 185, 186, 187, 188, 189, 190, 191, 192, 193, 194, 195, 196, 197, 198, 199, 200
part A text: #
part B text: #
part C text: #

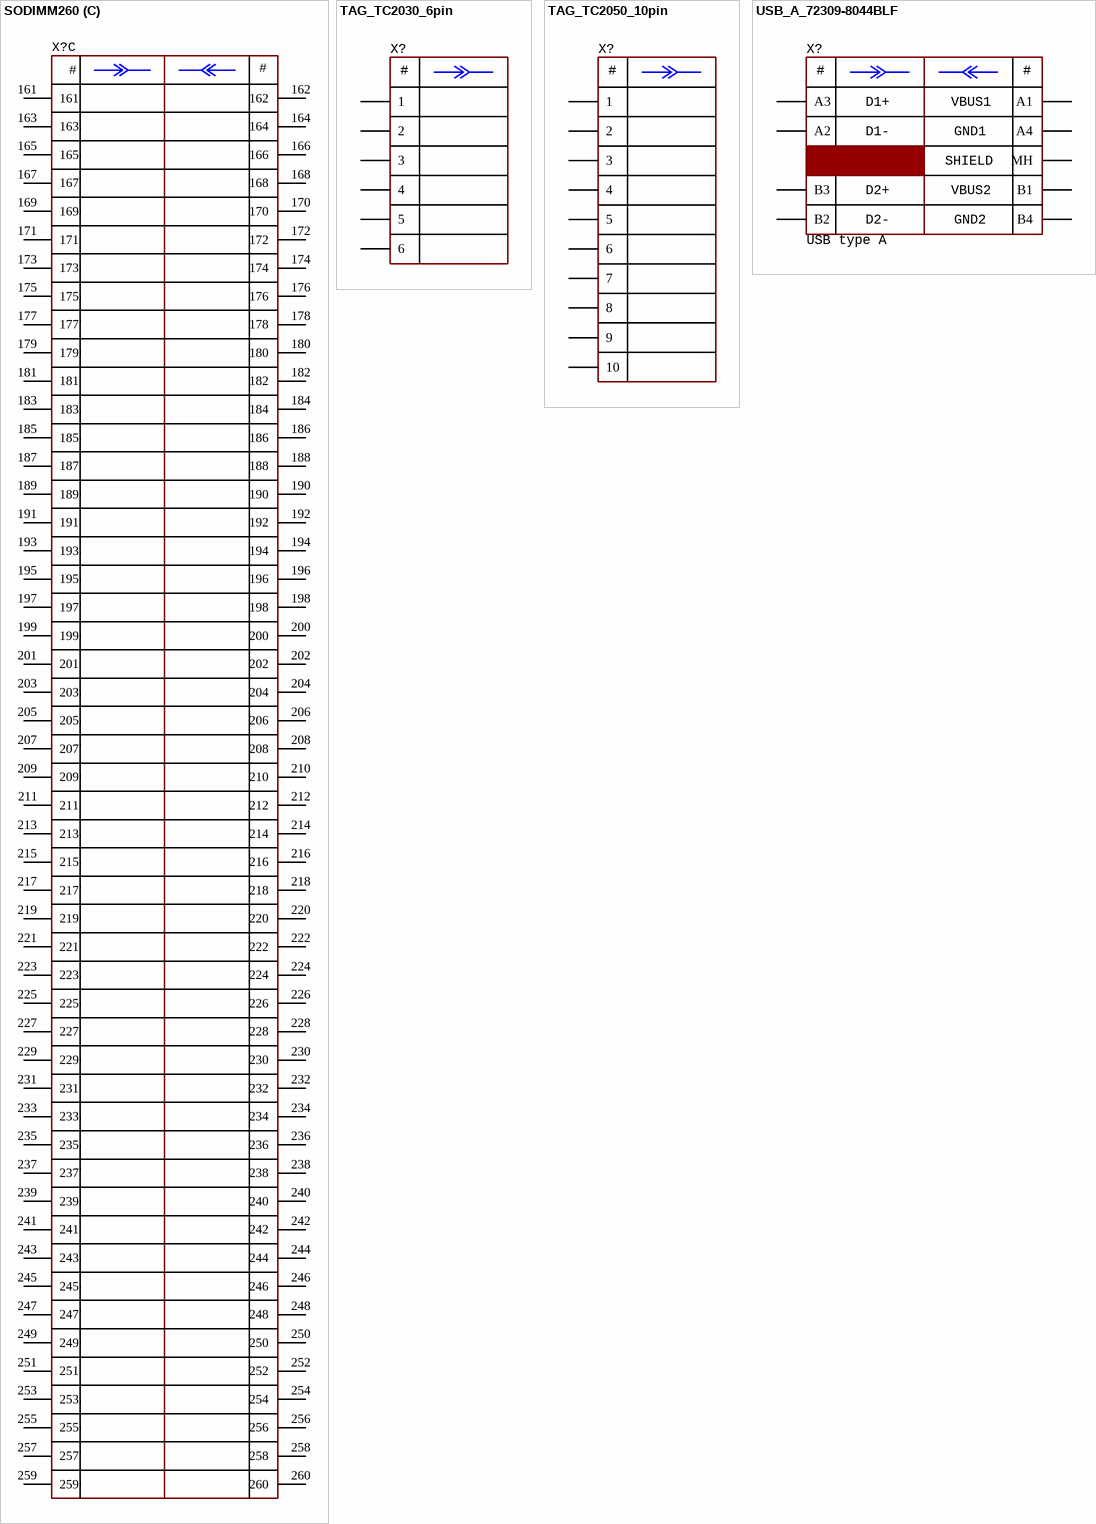
[diagram p7: symbols SODIMM260 to USB_A_72309-8044BLF]

## SODIMM260
designator X?
Manufacturer: TE connectivity; ValueManufacturerPartNumber: Connector, 260pins, 0.5mm, SODIMM DDR4, Edge Card; PartNumber: 2309407-1; TypeConnector: Connector; VoltageMax: SODIMM DDR4; Pitch: 0.5mm; CurrentMax: Edge Card; Multichannel: 260pins; CommentText: SODIMM; HelpURL: https://www.digikey.com/en/products/detail/te-connectivity-amp-connectors/2309407-1/7793534
footprint CON: SODIMM260_2309407-1 (TE)
part A pins: 1, 2, 3, 4, 5, 6, 7, 8, 9, 10, 11, 12, 13, 14, 15, 16, 17, 18, 19, 20, 21, 22, 23, 24, 25, 26, 27, 28, 29, 30, 31, 32, 33, 34, 35, 36, 37, 38, 39, 40, 41, 42, 43, 44, 45, 46, 47, 48, 49, 50, 51, 52, 53, 54, 55, 56, 57, 58, 59, 60, 61, 62, 63, 64, 65, 66, 67, 68, 69, 70, 71, 72, 73, 74, 75, 76, 77, 78, 79, 80
part B pins: 81, 82, 83, 84, 85, 86, 87, 88, 89, 90, 91, 92, 93, 94, 95, 96, 97, 98, 99, 100, 101, 102, 103, 104, 105, 106, 107, 108, 109, 110, 111, 112, 113, 114, 115, 116, 117, 118, 119, 120, 121, 122, 123, 124, 125, 126, 127, 128, 129, 130, 131, 132, 133, 134, 135, 136, 137, 138, 139, 140, 141, 142, 143, 144, 145, 146, 147, 148, 149, 150, 151, 152, 153, 154, 155, 156, 157, 158, 159, 160
part C pins: 161, 162, 163, 164, 165, 166, 167, 168, 169, 170, 171, 172, 173, 174, 175, 176, 177, 178, 179, 180, 181, 182, 183, 184, 185, 186, 187, 188, 189, 190, 191, 192, 193, 194, 195, 196, 197, 198, 199, 200, 201, 202, 203, 204, 205, 206, 207, 208, 209, 210, 211, 212, 213, 214, 215, 216, 217, 218, 219, 220, 221, 222, 223, 224, 225, 226, 227, 228, 229, 230, 231, 232, 233, 234, 235, 236, 237, 238, 239, 240, 241, 242, 243, 244, 245, 246, 247, 248, 249, 250, 251, 252, 253, 254, 255, 256, 257, 258, 259, 260
part A text: #
part B text: #
part C text: #

## TAG_TC2030_6pin
designator X?
Manufacturer: TagConnect; ValueManufacturerPartNumber: Connector, 6pin, 1.25mm, 50VDC, 1A; PartNumber: TC2030-IDC-NL; TypeConnector: Connector; VoltageMax: 50VDC; Pitch: 1.25mm; CurrentMax: 1A; Multichannel: 6pin; CommentText: "Разъем"; HelpURL: https://www.tag-connect.com/product/tc2030-idc-nl-10-6-pin-plug-of-nails-spring-pin-cable-with-0-1-ribbon-connector-10-version
footprint CON: TC2030
pins: 1, 2, 3, 4, 5, 6
text: #

## TAG_TC2050_10pin
designator X?
Manufacturer: TagConnect; ValueManufacturerPartNumber: Connector, 10pin, 1.25mm, 50VDC, 1A; PartNumber: TC2050-IDC-NL; TypeConnector: Connector; VoltageMax: 50VDC; Pitch: 1.25mm; CurrentMax: 1A; Multichannel: 10pin; CommentText: "Разъем"; HelpURL: https://www.tag-connect.com/product/tc2050-idc-nl-10-pin-no-legs-cable-with-ribbon-connector
footprint CON: TC2050
pins: 1, 2, 3 (power), 4 (power), 5 (power), 6 (power), 7 (power), 8 (power), 9 (power), 10 (power)
text: #

## USB_A_72309-8044BLF
designator X?  CommentText: USB type A
Manufacturer: Amphenol; ValueManufacturerPartNumber: 2 ports USB-A; PartNumber: 72309-8044BLF; HelpURL: https://www.digikey.com/en/products/detail/amphenol-icc-fci/72309-8044BLF/1529049; TypeConnector: 2 ports USB-A
footprint CON: USB_72309-8044BLF (USB2.0 to 2 ports, Amphenol)
pins: A1, A2, A3, A4, B1, B2, B3, B4, MH
text: #; D1+; VBUS1; D1-; GND1; SHIELD; D2+; VBUS2; D2-; GND2